# Altium integrated library 74xx-eu.IntLib: 627 symbols (part 3 of 4)
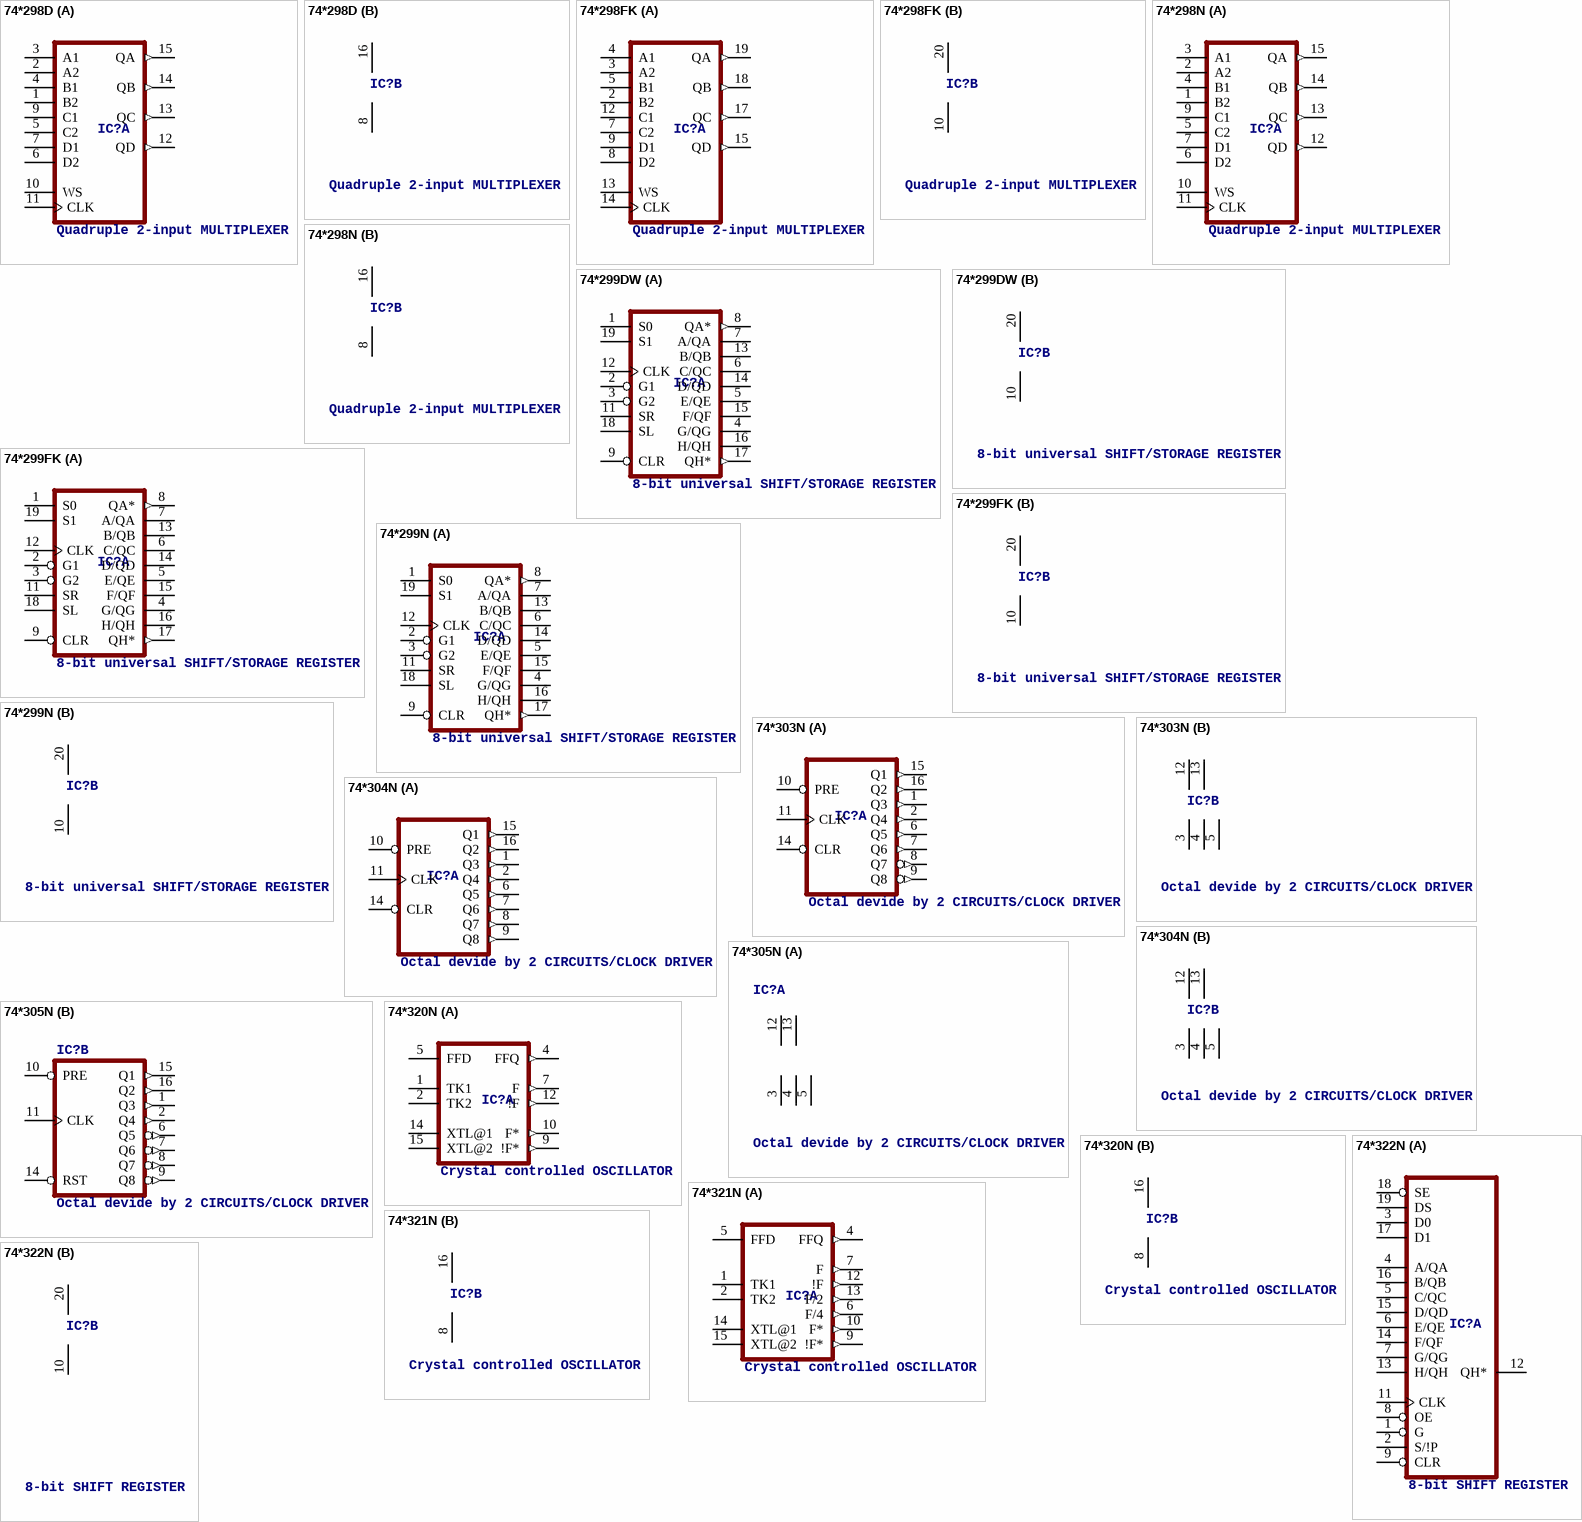
[diagram p57: symbols 74*298D to 74*322N]

## 74*299DW
designator IC?, comment 8-bit universal SHIFT/STORAGE REGISTER
footprint SO20W
part A pins: 1 S0, 2 G1, 3 G2, 4 G/QG, 5 E/QE, 6 C/QC, 7 A/QA, 8 QA* (out), 9 CLR, 11 SR, 12 CLK, 13 B/QB, 14 D/QD, 15 F/QF, 16 H/QH, 17 QH* (out), 18 SL, 19 S1
part B pins: 10 GND (power), 20 VCC (power)

## 74*299FK
designator IC?, comment 8-bit universal SHIFT/STORAGE REGISTER
footprint LCC20
part A pins: 1 S0, 2 G1, 3 G2, 4 G/QG, 5 E/QE, 6 C/QC, 7 A/QA, 8 QA* (out), 9 CLR, 11 SR, 12 CLK, 13 B/QB, 14 D/QD, 15 F/QF, 16 H/QH, 17 QH* (out), 18 SL, 19 S1
part B pins: 10 GND (power), 20 VCC (power)

## 74*299N
designator IC?, comment 8-bit universal SHIFT/STORAGE REGISTER
footprint DIL20
part A pins: 1 S0, 2 G1, 3 G2, 4 G/QG, 5 E/QE, 6 C/QC, 7 A/QA, 8 QA* (out), 9 CLR, 11 SR, 12 CLK, 13 B/QB, 14 D/QD, 15 F/QF, 16 H/QH, 17 QH* (out), 18 SL, 19 S1
part B pins: 10 GND (power), 20 VCC (power)

## 74*303N
designator IC?, comment Octal devide by 2 CIRCUITS/CLOCK DRIVER
footprint DIL16
part A pins: 1 Q3 (out), 2 Q4 (out), 6 Q5 (out), 7 Q6 (out), 8 Q7 (out), 9 Q8 (out), 10 PRE, 11 CLK, 14 CLR, 15 Q1 (out), 16 Q2 (out)
part B pins: 3 GND@1 (power), 4 GND@2 (power), 5 GND@3 (power), 12 VCC@1 (power), 13 VCC@2 (power)

## 74*304N
designator IC?, comment Octal devide by 2 CIRCUITS/CLOCK DRIVER
footprint DIL16
part A pins: 1 Q3 (out), 2 Q4 (out), 6 Q5 (out), 7 Q6 (out), 8 Q7 (out), 9 Q8 (out), 10 PRE, 11 CLK, 14 CLR, 15 Q1 (out), 16 Q2 (out)
part B pins: 3 GND@1 (power), 4 GND@2 (power), 5 GND@3 (power), 12 VCC@1 (power), 13 VCC@2 (power)

## 74*305N
designator IC?, comment Octal devide by 2 CIRCUITS/CLOCK DRIVER
footprint DIL16
part A pins: 3 GND@1 (power), 4 GND@2 (power), 5 GND@3 (power), 12 VCC@1 (power), 13 VCC@2 (power)
part B pins: 1 Q3 (out), 2 Q4 (out), 6 Q5 (out), 7 Q6 (out), 8 Q7 (out), 9 Q8 (out), 10 PRE, 11 CLK, 14 RST, 15 Q1 (out), 16 Q2 (out)

## 74*320N
designator IC?, comment Crystal controlled OSCILLATOR
footprint DIL16
part A pins: 1 TK1, 2 TK2, 4 FFQ (out), 5 FFD, 7 F (out), 9 !F* (out), 10 F* (out), 12 !F (out), 14 XTL@1, 15 XTL@2
part B pins: 8 GND (power), 16 VCC (power)

## 74*321N
designator IC?, comment Crystal controlled OSCILLATOR
footprint DIL16
part A pins: 1 TK1, 2 TK2, 4 FFQ (out), 5 FFD, 6 F/4 (out), 7 F (out), 9 !F* (out), 10 F* (out), 12 !F (out), 13 F/2 (out), 14 XTL@1, 15 XTL@2
part B pins: 8 GND (power), 16 VCC (power)

## 74*322N
designator IC?, comment 8-bit SHIFT REGISTER
footprint DIL20
part A pins: 1 G, 2 S/!P, 3 D0, 4 A/QA, 5 C/QC, 6 E/QE, 7 G/QG, 8 OE, 9 CLR, 11 CLK, 12 QH* (hiz), 13 H/QH, 14 F/QF, 15 D/QD, 16 B/QB, 17 D1, 18 SE, 19 DS
part B pins: 10 GND (power), 20 VCC (power)

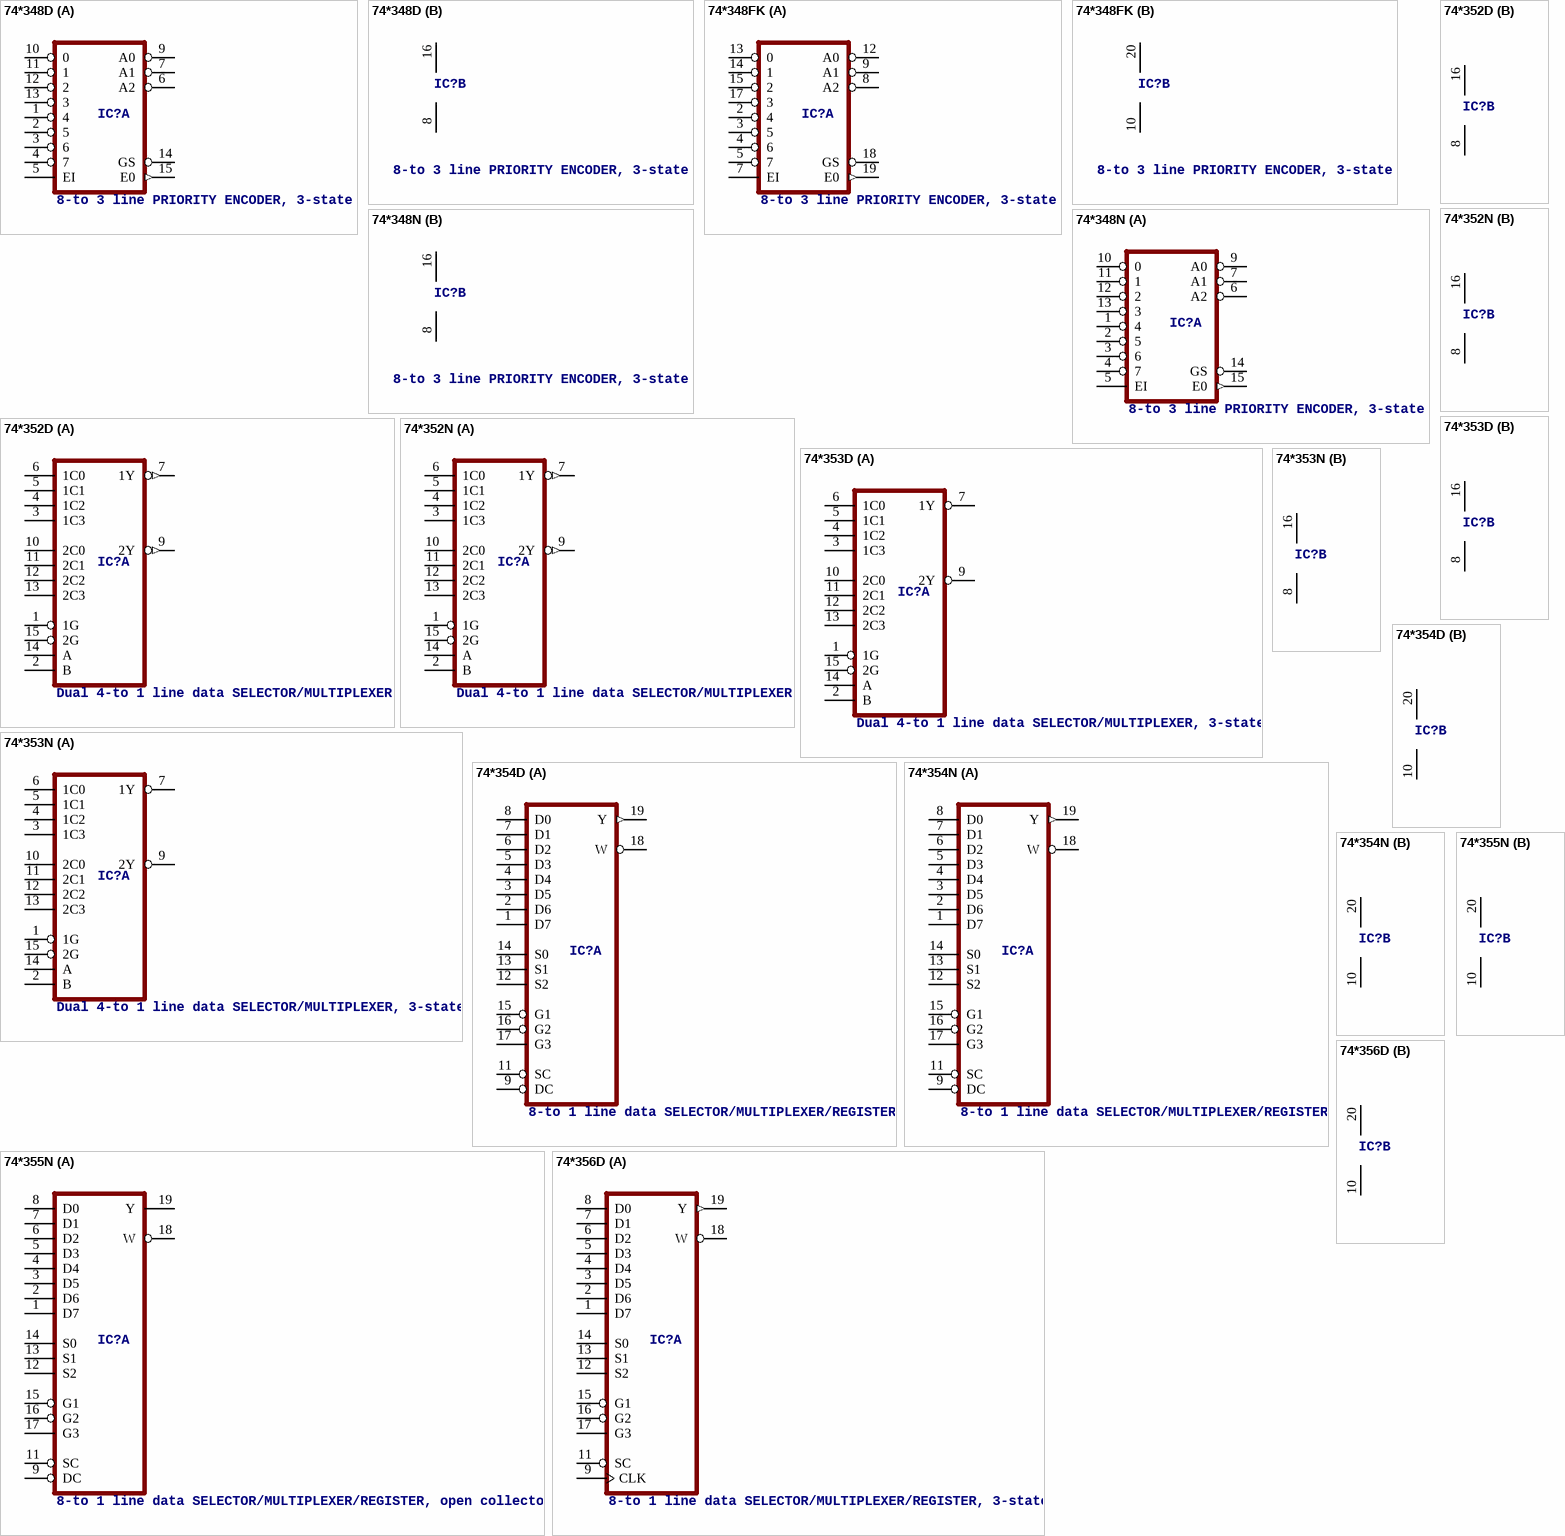
[diagram p35: symbols 74*348D to 74*356D]

## 74*348D
designator IC?, comment 8-to 3 line PRIORITY ENCODER, 3-state
footprint SO16
part A pins: 1 4, 2 5, 3 6, 4 7, 5 EI, 6 A2 (hiz), 7 A1 (hiz), 9 A0 (hiz), 10 0, 11 1, 12 2, 13 3, 14 GS (hiz), 15 E0 (out)
part B pins: 8 GND (power), 16 VCC (power)

## 74*348FK
designator IC?, comment 8-to 3 line PRIORITY ENCODER, 3-state
footprint LCC20
part A pins: 2 4, 3 5, 4 6, 5 7, 7 EI, 8 A2 (hiz), 9 A1 (hiz), 12 A0 (hiz), 13 0, 14 1, 15 2, 17 3, 18 GS (hiz), 19 E0 (out)
part B pins: 10 GND (power), 20 VCC (power)

## 74*348N
designator IC?, comment 8-to 3 line PRIORITY ENCODER, 3-state
footprint DIL16
part A pins: 1 4, 2 5, 3 6, 4 7, 5 EI, 6 A2 (hiz), 7 A1 (hiz), 9 A0 (hiz), 10 0, 11 1, 12 2, 13 3, 14 GS (hiz), 15 E0 (out)
part B pins: 8 GND (power), 16 VCC (power)

## 74*352D
designator IC?, comment Dual 4-to 1 line data SELECTOR/MULTIPLEXER
footprint SO16
part A pins: 1 1G, 2 B, 3 1C3, 4 1C2, 5 1C1, 6 1C0, 7 1Y (out), 9 2Y (out), 10 2C0, 11 2C1, 12 2C2, 13 2C3, 14 A, 15 2G
part B pins: 8 GND (power), 16 VCC (power)

## 74*352N
designator IC?, comment Dual 4-to 1 line data SELECTOR/MULTIPLEXER
footprint DIL16
part A pins: 1 1G, 2 B, 3 1C3, 4 1C2, 5 1C1, 6 1C0, 7 1Y (out), 9 2Y (out), 10 2C0, 11 2C1, 12 2C2, 13 2C3, 14 A, 15 2G
part B pins: 8 GND (power), 16 VCC (power)

## 74*353D
designator IC?, comment Dual 4-to 1 line data SELECTOR/MULTIPLEXER, 3-state
footprint SO16
part A pins: 1 1G, 2 B, 3 1C3, 4 1C2, 5 1C1, 6 1C0, 7 1Y (hiz), 9 2Y (hiz), 10 2C0, 11 2C1, 12 2C2, 13 2C3, 14 A, 15 2G
part B pins: 8 GND (power), 16 VCC (power)

## 74*353N
designator IC?, comment Dual 4-to 1 line data SELECTOR/MULTIPLEXER, 3-state
footprint DIL16
part A pins: 1 1G, 2 B, 3 1C3, 4 1C2, 5 1C1, 6 1C0, 7 1Y (hiz), 9 2Y (hiz), 10 2C0, 11 2C1, 12 2C2, 13 2C3, 14 A, 15 2G
part B pins: 8 GND (power), 16 VCC (power)

## 74*354D
designator IC?, comment 8-to 1 line data SELECTOR/MULTIPLEXER/REGISTER
footprint SO20W
part A pins: 1 D7, 2 D6, 3 D5, 4 D4, 5 D3, 6 D2, 7 D1, 8 D0, 9 DC, 11 SC, 12 S2, 13 S1, 14 S0, 15 G1, 16 G2, 17 G3, 18 W (hiz), 19 Y (out)
part B pins: 10 GND (power), 20 VCC (power)

## 74*354N
designator IC?, comment 8-to 1 line data SELECTOR/MULTIPLEXER/REGISTER
footprint DIL20
part A pins: 1 D7, 2 D6, 3 D5, 4 D4, 5 D3, 6 D2, 7 D1, 8 D0, 9 DC, 11 SC, 12 S2, 13 S1, 14 S0, 15 G1, 16 G2, 17 G3, 18 W (hiz), 19 Y (out)
part B pins: 10 GND (power), 20 VCC (power)

## 74*355N
designator IC?, comment 8-to 1 line data SELECTOR/MULTIPLEXER/REGISTER, open collector
footprint DIL20
part A pins: 1 D7, 2 D6, 3 D5, 4 D4, 5 D3, 6 D2, 7 D1, 8 D0, 9 DC, 11 SC, 12 S2, 13 S1, 14 S0, 15 G1, 16 G2, 17 G3, 18 W (oc), 19 Y (oc)
part B pins: 10 GND (power), 20 VCC (power)

## 74*356D
designator IC?, comment 8-to 1 line data SELECTOR/MULTIPLEXER/REGISTER, 3-state
footprint SO20W
part A pins: 1 D7, 2 D6, 3 D5, 4 D4, 5 D3, 6 D2, 7 D1, 8 D0, 9 CLK, 11 SC, 12 S2, 13 S1, 14 S0, 15 G1, 16 G2, 17 G3, 18 W (hiz), 19 Y (out)
part B pins: 10 GND (power), 20 VCC (power)

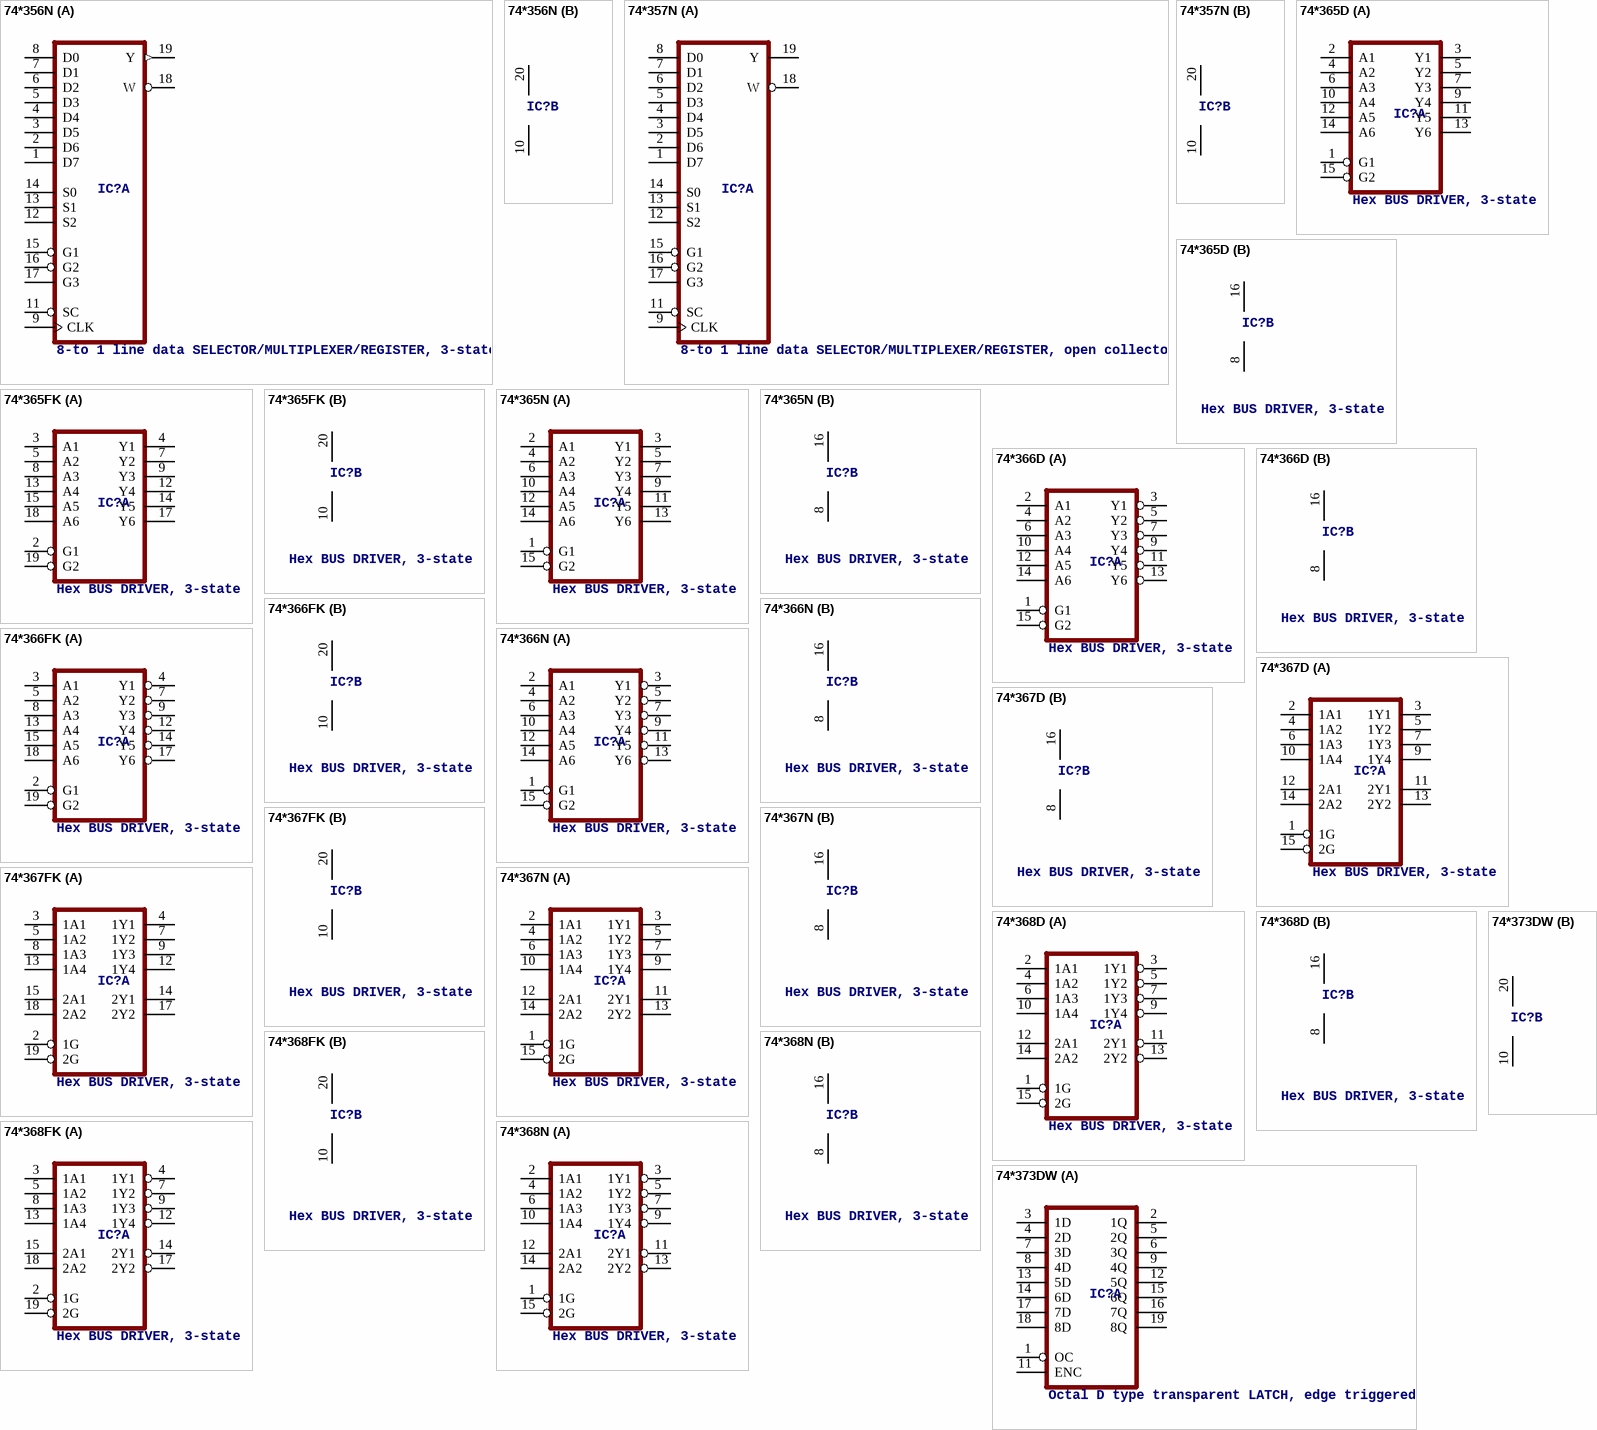
[diagram p36: symbols 74*356N to 74*373DW]

## 74*356N
designator IC?, comment 8-to 1 line data SELECTOR/MULTIPLEXER/REGISTER, 3-state
footprint DIL20
part A pins: 1 D7, 2 D6, 3 D5, 4 D4, 5 D3, 6 D2, 7 D1, 8 D0, 9 CLK, 11 SC, 12 S2, 13 S1, 14 S0, 15 G1, 16 G2, 17 G3, 18 W (hiz), 19 Y (out)
part B pins: 10 GND (power), 20 VCC (power)

## 74*357N
designator IC?, comment 8-to 1 line data SELECTOR/MULTIPLEXER/REGISTER, open collector
footprint DIL20
part A pins: 1 D7, 2 D6, 3 D5, 4 D4, 5 D3, 6 D2, 7 D1, 8 D0, 9 CLK, 11 SC, 12 S2, 13 S1, 14 S0, 15 G1, 16 G2, 17 G3, 18 W (oc), 19 Y (oc)
part B pins: 10 GND (power), 20 VCC (power)

## 74*365D
designator IC?, comment Hex BUS DRIVER, 3-state
footprint SO16
part A pins: 1 G1, 2 A1, 3 Y1 (hiz), 4 A2, 5 Y2 (hiz), 6 A3, 7 Y3 (hiz), 9 Y4 (hiz), 10 A4, 11 Y5 (hiz), 12 A5, 13 Y6 (hiz), 14 A6, 15 G2
part B pins: 8 GND (power), 16 VCC (power)

## 74*365FK
designator IC?, comment Hex BUS DRIVER, 3-state
footprint LCC20
part A pins: 2 G1, 3 A1, 4 Y1 (hiz), 5 A2, 7 Y2 (hiz), 8 A3, 9 Y3 (hiz), 12 Y4 (hiz), 13 A4, 14 Y5 (hiz), 15 A5, 17 Y6 (hiz), 18 A6, 19 G2
part B pins: 10 GND (power), 20 VCC (power)

## 74*365N
designator IC?, comment Hex BUS DRIVER, 3-state
footprint DIL16
part A pins: 1 G1, 2 A1, 3 Y1 (hiz), 4 A2, 5 Y2 (hiz), 6 A3, 7 Y3 (hiz), 9 Y4 (hiz), 10 A4, 11 Y5 (hiz), 12 A5, 13 Y6 (hiz), 14 A6, 15 G2
part B pins: 8 GND (power), 16 VCC (power)

## 74*366D
designator IC?, comment Hex BUS DRIVER, 3-state
footprint SO16
part A pins: 1 G1, 2 A1, 3 Y1 (hiz), 4 A2, 5 Y2 (hiz), 6 A3, 7 Y3 (hiz), 9 Y4 (hiz), 10 A4, 11 Y5 (hiz), 12 A5, 13 Y6 (hiz), 14 A6, 15 G2
part B pins: 8 GND (power), 16 VCC (power)

## 74*366FK
designator IC?, comment Hex BUS DRIVER, 3-state
footprint LCC20
part A pins: 2 G1, 3 A1, 4 Y1 (hiz), 5 A2, 7 Y2 (hiz), 8 A3, 9 Y3 (hiz), 12 Y4 (hiz), 13 A4, 14 Y5 (hiz), 15 A5, 17 Y6 (hiz), 18 A6, 19 G2
part B pins: 10 GND (power), 20 VCC (power)

## 74*366N
designator IC?, comment Hex BUS DRIVER, 3-state
footprint DIL16
part A pins: 1 G1, 2 A1, 3 Y1 (hiz), 4 A2, 5 Y2 (hiz), 6 A3, 7 Y3 (hiz), 9 Y4 (hiz), 10 A4, 11 Y5 (hiz), 12 A5, 13 Y6 (hiz), 14 A6, 15 G2
part B pins: 8 GND (power), 16 VCC (power)

## 74*367D
designator IC?, comment Hex BUS DRIVER, 3-state
footprint SO16
part A pins: 1 1G, 2 1A1, 3 1Y1 (hiz), 4 1A2, 5 1Y2 (hiz), 6 1A3, 7 1Y3 (hiz), 9 1Y4 (hiz), 10 1A4, 11 2Y1 (hiz), 12 2A1, 13 2Y2 (hiz), 14 2A2, 15 2G
part B pins: 8 GND (power), 16 VCC (power)

## 74*367FK
designator IC?, comment Hex BUS DRIVER, 3-state
footprint LCC20
part A pins: 2 1G, 3 1A1, 4 1Y1 (hiz), 5 1A2, 7 1Y2 (hiz), 8 1A3, 9 1Y3 (hiz), 12 1Y4 (hiz), 13 1A4, 14 2Y1 (hiz), 15 2A1, 17 2Y2 (hiz), 18 2A2, 19 2G
part B pins: 10 GND (power), 20 VCC (power)

## 74*367N
designator IC?, comment Hex BUS DRIVER, 3-state
footprint DIL16
part A pins: 1 1G, 2 1A1, 3 1Y1 (hiz), 4 1A2, 5 1Y2 (hiz), 6 1A3, 7 1Y3 (hiz), 9 1Y4 (hiz), 10 1A4, 11 2Y1 (hiz), 12 2A1, 13 2Y2 (hiz), 14 2A2, 15 2G
part B pins: 8 GND (power), 16 VCC (power)

## 74*368D
designator IC?, comment Hex BUS DRIVER, 3-state
footprint SO16
part A pins: 1 1G, 2 1A1, 3 1Y1 (hiz), 4 1A2, 5 1Y2 (hiz), 6 1A3, 7 1Y3 (hiz), 9 1Y4 (hiz), 10 1A4, 11 2Y1 (hiz), 12 2A1, 13 2Y2 (hiz), 14 2A2, 15 2G
part B pins: 8 GND (power), 16 VCC (power)

## 74*368FK
designator IC?, comment Hex BUS DRIVER, 3-state
footprint LCC20
part A pins: 2 1G, 3 1A1, 4 1Y1 (hiz), 5 1A2, 7 1Y2 (hiz), 8 1A3, 9 1Y3 (hiz), 12 1Y4 (hiz), 13 1A4, 14 2Y1 (hiz), 15 2A1, 17 2Y2 (hiz), 18 2A2, 19 2G
part B pins: 10 GND (power), 20 VCC (power)

## 74*368N
designator IC?, comment Hex BUS DRIVER, 3-state
footprint DIL16
part A pins: 1 1G, 2 1A1, 3 1Y1 (hiz), 4 1A2, 5 1Y2 (hiz), 6 1A3, 7 1Y3 (hiz), 9 1Y4 (hiz), 10 1A4, 11 2Y1 (hiz), 12 2A1, 13 2Y2 (hiz), 14 2A2, 15 2G
part B pins: 8 GND (power), 16 VCC (power)

## 74*373DW
designator IC?, comment Octal D type transparent LATCH, edge triggered
footprint SO20W
part A pins: 1 OC, 2 1Q (hiz), 3 1D, 4 2D, 5 2Q (hiz), 6 3Q (hiz), 7 3D, 8 4D, 9 4Q (hiz), 11 ENC, 12 5Q (hiz), 13 5D, 14 6D, 15 6Q (hiz), 16 7Q (hiz), 17 7D, 18 8D, 19 8Q (hiz)
part B pins: 10 GND (power), 20 VCC (power)

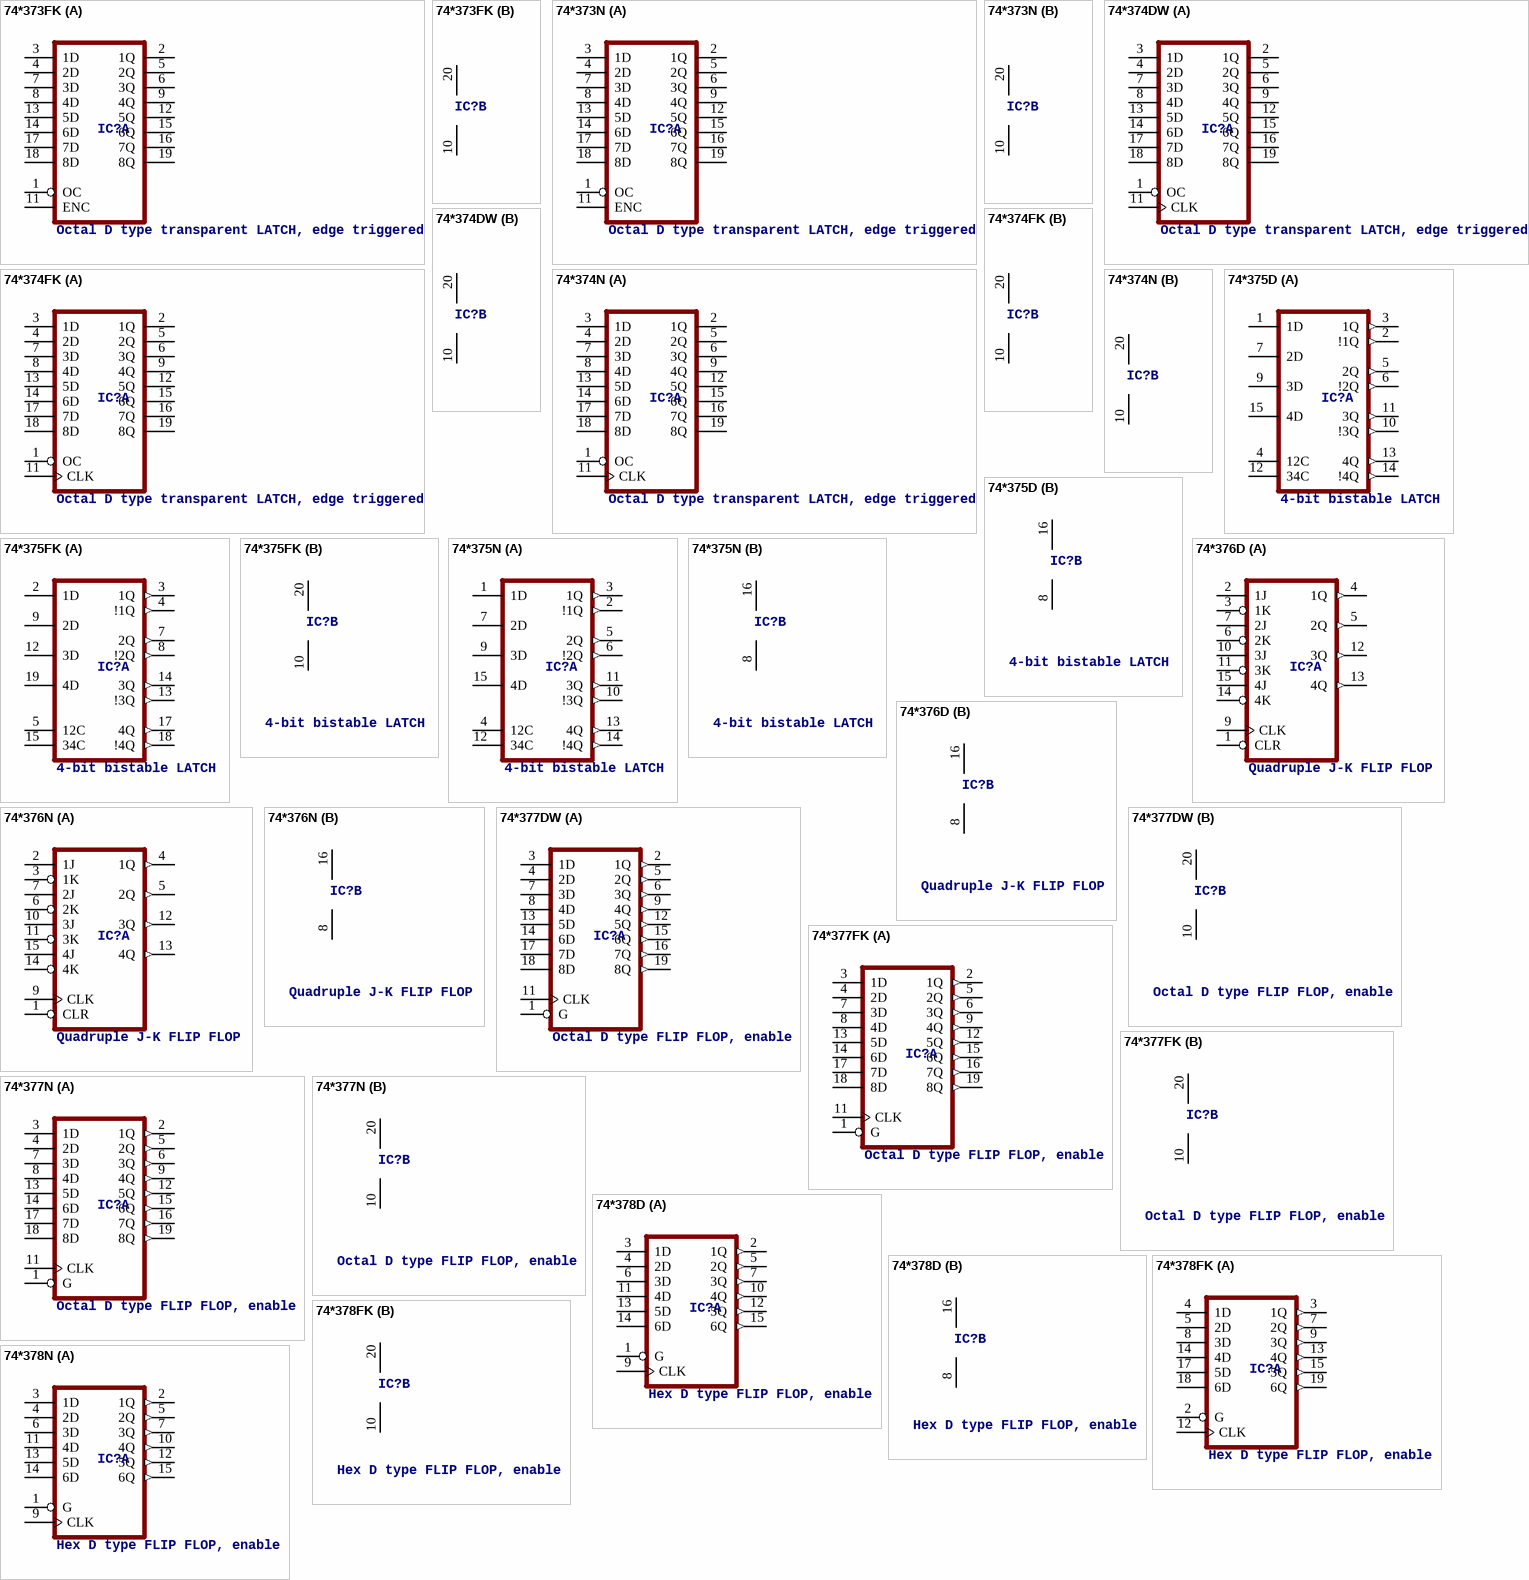
[diagram p37: symbols 74*373FK to 74*378N]

## 74*373FK
designator IC?, comment Octal D type transparent LATCH, edge triggered
footprint LCC20
part A pins: 1 OC, 2 1Q (hiz), 3 1D, 4 2D, 5 2Q (hiz), 6 3Q (hiz), 7 3D, 8 4D, 9 4Q (hiz), 11 ENC, 12 5Q (hiz), 13 5D, 14 6D, 15 6Q (hiz), 16 7Q (hiz), 17 7D, 18 8D, 19 8Q (hiz)
part B pins: 10 GND (power), 20 VCC (power)

## 74*373N
designator IC?, comment Octal D type transparent LATCH, edge triggered
footprint DIL20
part A pins: 1 OC, 2 1Q (hiz), 3 1D, 4 2D, 5 2Q (hiz), 6 3Q (hiz), 7 3D, 8 4D, 9 4Q (hiz), 11 ENC, 12 5Q (hiz), 13 5D, 14 6D, 15 6Q (hiz), 16 7Q (hiz), 17 7D, 18 8D, 19 8Q (hiz)
part B pins: 10 GND (power), 20 VCC (power)

## 74*374DW
designator IC?, comment Octal D type transparent LATCH, edge triggered
footprint SO20W
part A pins: 1 OC, 2 1Q (hiz), 3 1D, 4 2D, 5 2Q (hiz), 6 3Q (hiz), 7 3D, 8 4D, 9 4Q (hiz), 11 CLK, 12 5Q (hiz), 13 5D, 14 6D, 15 6Q (hiz), 16 7Q (hiz), 17 7D, 18 8D, 19 8Q (hiz)
part B pins: 10 GND (power), 20 VCC (power)

## 74*374FK
designator IC?, comment Octal D type transparent LATCH, edge triggered
footprint LCC20
part A pins: 1 OC, 2 1Q (hiz), 3 1D, 4 2D, 5 2Q (hiz), 6 3Q (hiz), 7 3D, 8 4D, 9 4Q (hiz), 11 CLK, 12 5Q (hiz), 13 5D, 14 6D, 15 6Q (hiz), 16 7Q (hiz), 17 7D, 18 8D, 19 8Q (hiz)
part B pins: 10 GND (power), 20 VCC (power)

## 74*374N
designator IC?, comment Octal D type transparent LATCH, edge triggered
footprint DIL20
part A pins: 1 OC, 2 1Q (hiz), 3 1D, 4 2D, 5 2Q (hiz), 6 3Q (hiz), 7 3D, 8 4D, 9 4Q (hiz), 11 CLK, 12 5Q (hiz), 13 5D, 14 6D, 15 6Q (hiz), 16 7Q (hiz), 17 7D, 18 8D, 19 8Q (hiz)
part B pins: 10 GND (power), 20 VCC (power)

## 74*375D
designator IC?, comment 4-bit bistable LATCH
footprint SO16
part A pins: 1 1D, 2 !1Q (out), 3 1Q (out), 4 12C, 5 2Q (out), 6 !2Q (out), 7 2D, 9 3D, 10 !3Q (out), 11 3Q (out), 12 34C, 13 4Q (out), 14 !4Q (out), 15 4D
part B pins: 8 GND (power), 16 VCC (power)

## 74*375FK
designator IC?, comment 4-bit bistable LATCH
footprint LCC20
part A pins: 2 1D, 3 1Q (out), 4 !1Q (out), 5 12C, 7 2Q (out), 8 !2Q (out), 9 2D, 12 3D, 13 !3Q (out), 14 3Q (out), 15 34C, 17 4Q (out), 18 !4Q (out), 19 4D
part B pins: 10 GND (power), 20 VCC (power)

## 74*375N
designator IC?, comment 4-bit bistable LATCH
footprint DIL16
part A pins: 1 1D, 2 !1Q (out), 3 1Q (out), 4 12C, 5 2Q (out), 6 !2Q (out), 7 2D, 9 3D, 10 !3Q (out), 11 3Q (out), 12 34C, 13 4Q (out), 14 !4Q (out), 15 4D
part B pins: 8 GND (power), 16 VCC (power)

## 74*376D
designator IC?, comment Quadruple J-K FLIP FLOP
footprint SO16
part A pins: 1 CLR, 2 1J, 3 1K, 4 1Q (out), 5 2Q (out), 6 2K, 7 2J, 9 CLK, 10 3J, 11 3K, 12 3Q (out), 13 4Q (out), 14 4K, 15 4J
part B pins: 8 GND (power), 16 VCC (power)

## 74*376N
designator IC?, comment Quadruple J-K FLIP FLOP
footprint DIL16
part A pins: 1 CLR, 2 1J, 3 1K, 4 1Q (out), 5 2Q (out), 6 2K, 7 2J, 9 CLK, 10 3J, 11 3K, 12 3Q (out), 13 4Q (out), 14 4K, 15 4J
part B pins: 8 GND (power), 16 VCC (power)

## 74*377DW
designator IC?, comment Octal D type FLIP FLOP, enable
footprint SO20W
part A pins: 1 G, 2 1Q (out), 3 1D, 4 2D, 5 2Q (out), 6 3Q (out), 7 3D, 8 4D, 9 4Q (out), 11 CLK, 12 5Q (out), 13 5D, 14 6D, 15 6Q (out), 16 7Q (out), 17 7D, 18 8D, 19 8Q (out)
part B pins: 10 GND (power), 20 VCC (power)

## 74*377FK
designator IC?, comment Octal D type FLIP FLOP, enable
footprint LCC20
part A pins: 1 G, 2 1Q (out), 3 1D, 4 2D, 5 2Q (out), 6 3Q (out), 7 3D, 8 4D, 9 4Q (out), 11 CLK, 12 5Q (out), 13 5D, 14 6D, 15 6Q (out), 16 7Q (out), 17 7D, 18 8D, 19 8Q (out)
part B pins: 10 GND (power), 20 VCC (power)

## 74*377N
designator IC?, comment Octal D type FLIP FLOP, enable
footprint DIL20
part A pins: 1 G, 2 1Q (out), 3 1D, 4 2D, 5 2Q (out), 6 3Q (out), 7 3D, 8 4D, 9 4Q (out), 11 CLK, 12 5Q (out), 13 5D, 14 6D, 15 6Q (out), 16 7Q (out), 17 7D, 18 8D, 19 8Q (out)
part B pins: 10 GND (power), 20 VCC (power)

## 74*378D
designator IC?, comment Hex D type FLIP FLOP, enable
footprint SO16
part A pins: 1 G, 2 1Q (out), 3 1D, 4 2D, 5 2Q (out), 6 3D, 7 3Q (out), 9 CLK, 10 4Q (out), 11 4D, 12 5Q (out), 13 5D, 14 6D, 15 6Q (out)
part B pins: 8 GND (power), 16 VCC (power)

## 74*378FK
designator IC?, comment Hex D type FLIP FLOP, enable
footprint LCC20
part A pins: 2 G, 3 1Q (out), 4 1D, 5 2D, 7 2Q (out), 8 3D, 9 3Q (out), 12 CLK, 13 4Q (out), 14 4D, 15 5Q (out), 17 5D, 18 6D, 19 6Q (out)
part B pins: 10 GND (power), 20 VCC (power)

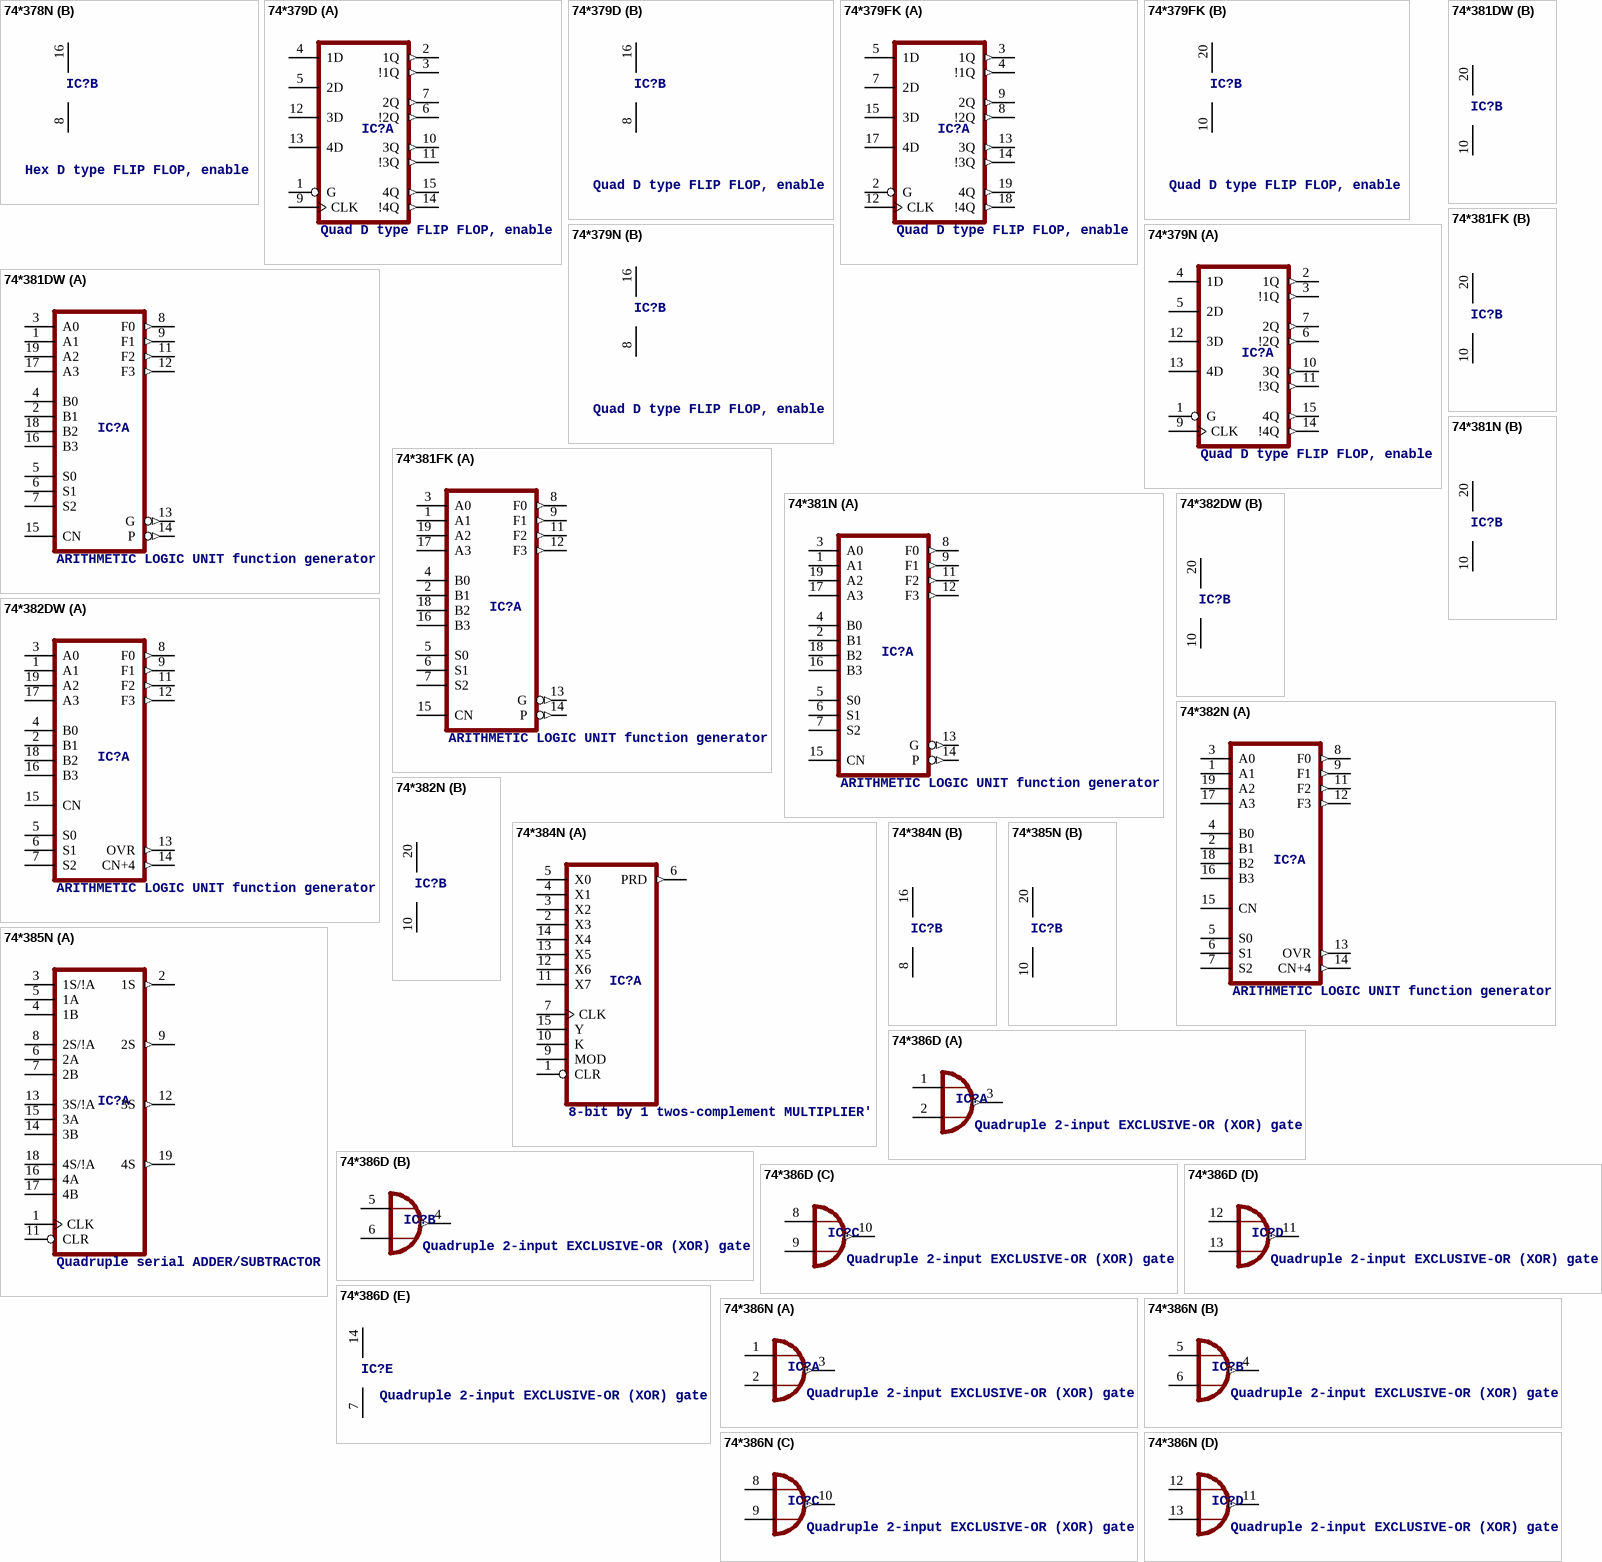
[diagram p38: symbols 74*378N to 74*386N]

## 74*378N
designator IC?, comment Hex D type FLIP FLOP, enable
footprint DIL16
part A pins: 1 G, 2 1Q (out), 3 1D, 4 2D, 5 2Q (out), 6 3D, 7 3Q (out), 9 CLK, 10 4Q (out), 11 4D, 12 5Q (out), 13 5D, 14 6D, 15 6Q (out)
part B pins: 8 GND (power), 16 VCC (power)

## 74*379D
designator IC?, comment Quad D type FLIP FLOP, enable
footprint SO16
part A pins: 1 G, 2 1Q (out), 3 !1Q (out), 4 1D, 5 2D, 6 !2Q (out), 7 2Q (out), 9 CLK, 10 3Q (out), 11 !3Q (out), 12 3D, 13 4D, 14 !4Q (out), 15 4Q (out)
part B pins: 8 GND (power), 16 VCC (power)

## 74*379FK
designator IC?, comment Quad D type FLIP FLOP, enable
footprint LCC20
part A pins: 2 G, 3 1Q (out), 4 !1Q (out), 5 1D, 7 2D, 8 !2Q (out), 9 2Q (out), 12 CLK, 13 3Q (out), 14 !3Q (out), 15 3D, 17 4D, 18 !4Q (out), 19 4Q (out)
part B pins: 10 GND (power), 20 VCC (power)

## 74*379N
designator IC?, comment Quad D type FLIP FLOP, enable
footprint DIL16
part A pins: 1 G, 2 1Q (out), 3 !1Q (out), 4 1D, 5 2D, 6 !2Q (out), 7 2Q (out), 9 CLK, 10 3Q (out), 11 !3Q (out), 12 3D, 13 4D, 14 !4Q (out), 15 4Q (out)
part B pins: 8 GND (power), 16 VCC (power)

## 74*381DW
designator IC?, comment ARITHMETIC LOGIC UNIT function generator
footprint SO20W
part A pins: 1 A1, 2 B1, 3 A0, 4 B0, 5 S0, 6 S1, 7 S2, 8 F0 (out), 9 F1 (out), 11 F2 (out), 12 F3 (out), 13 G (out), 14 P (out), 15 CN, 16 B3, 17 A3, 18 B2, 19 A2
part B pins: 10 GND (power), 20 VCC (power)

## 74*381FK
designator IC?, comment ARITHMETIC LOGIC UNIT function generator
footprint LCC20
part A pins: 1 A1, 2 B1, 3 A0, 4 B0, 5 S0, 6 S1, 7 S2, 8 F0 (out), 9 F1 (out), 11 F2 (out), 12 F3 (out), 13 G (out), 14 P (out), 15 CN, 16 B3, 17 A3, 18 B2, 19 A2
part B pins: 10 GND (power), 20 VCC (power)

## 74*381N
designator IC?, comment ARITHMETIC LOGIC UNIT function generator
footprint DIL20
part A pins: 1 A1, 2 B1, 3 A0, 4 B0, 5 S0, 6 S1, 7 S2, 8 F0 (out), 9 F1 (out), 11 F2 (out), 12 F3 (out), 13 G (out), 14 P (out), 15 CN, 16 B3, 17 A3, 18 B2, 19 A2
part B pins: 10 GND (power), 20 VCC (power)

## 74*382DW
designator IC?, comment ARITHMETIC LOGIC UNIT function generator
footprint SO20W
part A pins: 1 A1, 2 B1, 3 A0, 4 B0, 5 S0, 6 S1, 7 S2, 8 F0 (out), 9 F1 (out), 11 F2 (out), 12 F3 (out), 13 OVR (out), 14 CN+4 (out), 15 CN, 16 B3, 17 A3, 18 B2, 19 A2
part B pins: 10 GND (power), 20 VCC (power)

## 74*382N
designator IC?, comment ARITHMETIC LOGIC UNIT function generator
footprint DIL20
part A pins: 1 A1, 2 B1, 3 A0, 4 B0, 5 S0, 6 S1, 7 S2, 8 F0 (out), 9 F1 (out), 11 F2 (out), 12 F3 (out), 13 OVR (out), 14 CN+4 (out), 15 CN, 16 B3, 17 A3, 18 B2, 19 A2
part B pins: 10 GND (power), 20 VCC (power)

## 74*384N
designator IC?, comment 8-bit by 1 twos-complement MULTIPLIER'
footprint DIL16
part A pins: 1 CLR, 2 X3, 3 X2, 4 X1, 5 X0, 6 PRD (out), 7 CLK, 9 MOD, 10 K, 11 X7, 12 X6, 13 X5, 14 X4, 15 Y
part B pins: 8 GND (power), 16 VCC (power)

## 74*385N
designator IC?, comment Quadruple serial ADDER/SUBTRACTOR
footprint DIL20
part A pins: 1 CLK, 2 1S (out), 3 1S/!A, 4 1B, 5 1A, 6 2A, 7 2B, 8 2S/!A, 9 2S (out), 11 CLR, 12 3S (out), 13 3S/!A, 14 3B, 15 3A, 16 4A, 17 4B, 18 4S/!A, 19 4S (out)
part B pins: 10 GND (power), 20 VCC (power)

## 74*386D
designator IC?, comment Quadruple 2-input EXCLUSIVE-OR (XOR) gate
footprint SO14
part A pins: 1 I0, 2 I1, 3 O (out)
part B pins: 4 O (out), 5 I0, 6 I1
part C pins: 8 I0, 9 I1, 10 O (out)
part D pins: 11 O (out), 12 I0, 13 I1
part E pins: 7 GND (power), 14 VCC (power)

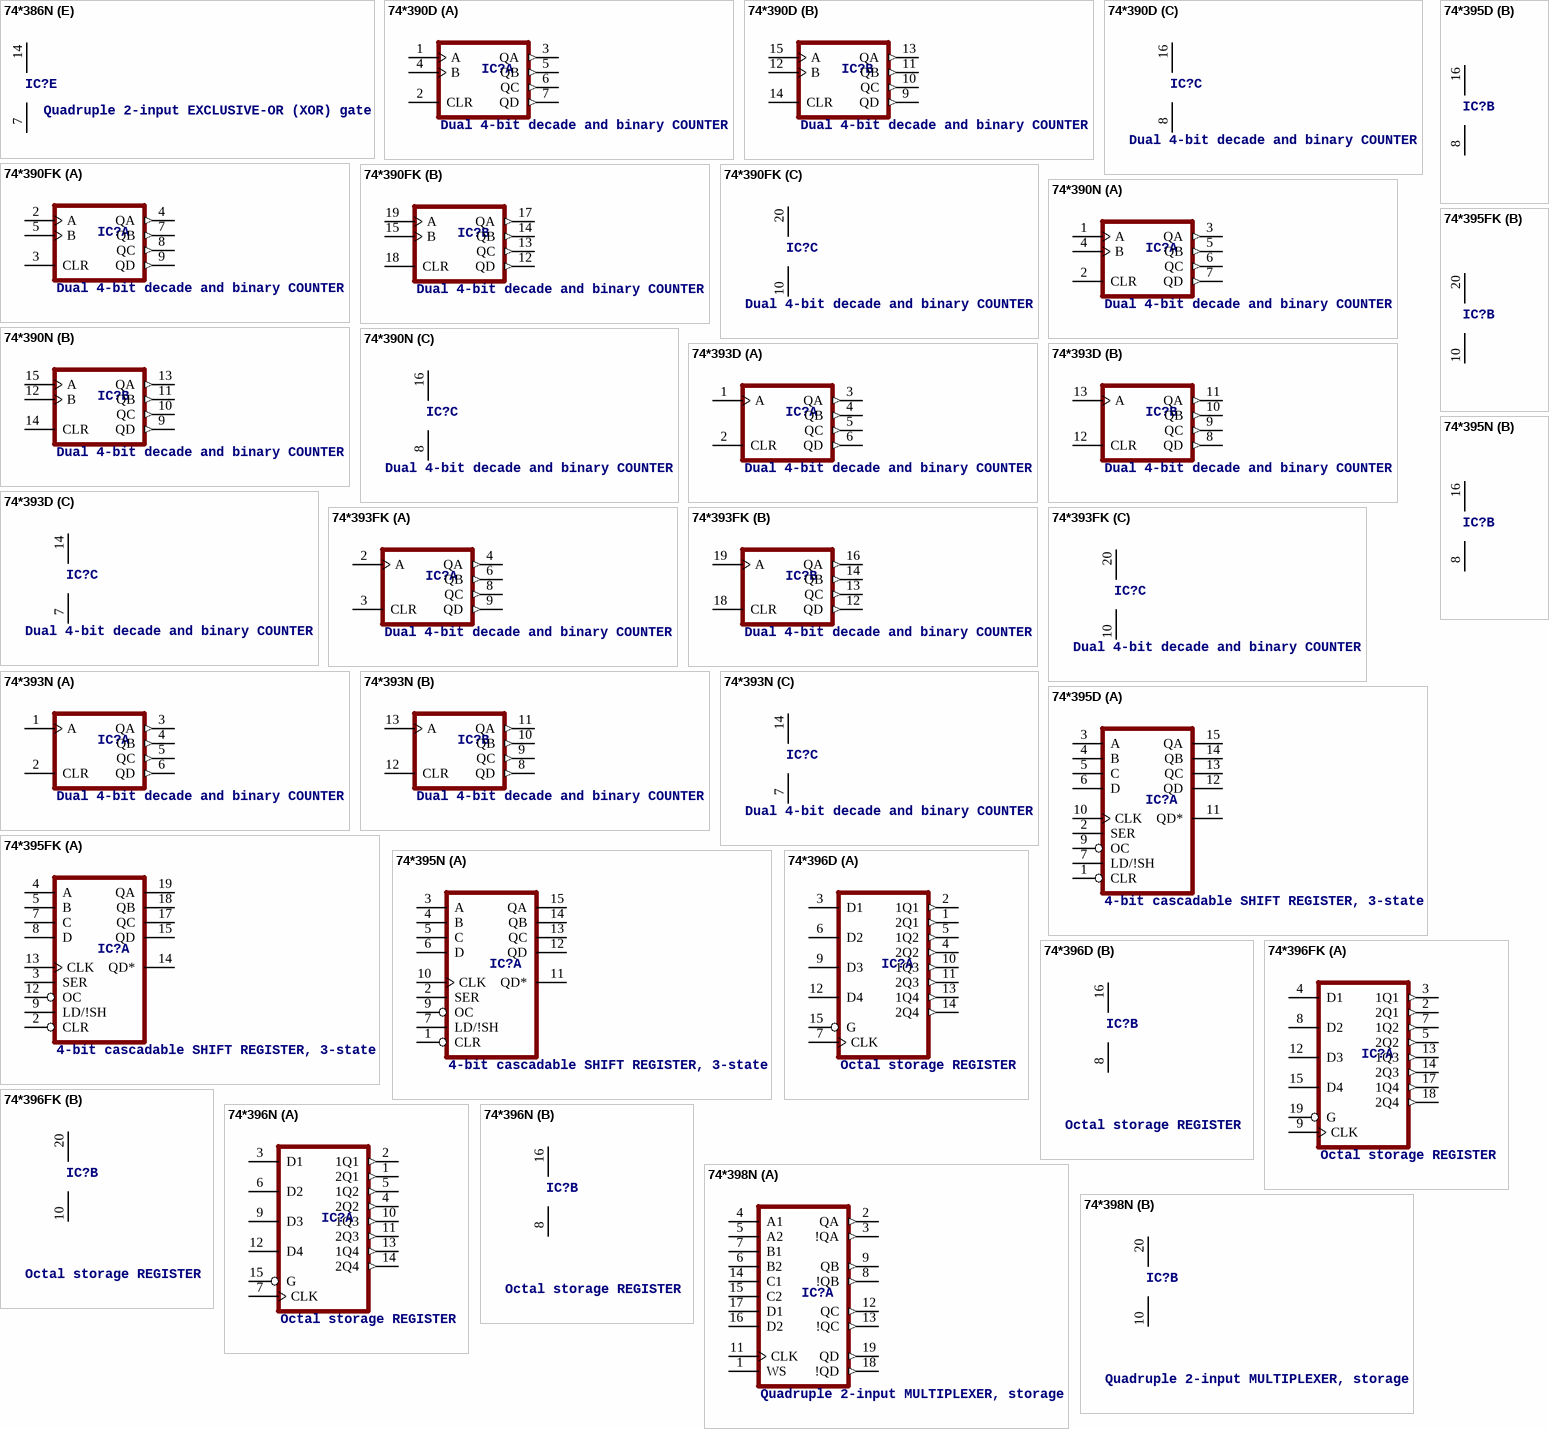
[diagram p39: symbols 74*386N to 74*398N]

## 74*386N
designator IC?, comment Quadruple 2-input EXCLUSIVE-OR (XOR) gate
footprint DIL14
part A pins: 1 I0, 2 I1, 3 O (out)
part B pins: 4 O (out), 5 I0, 6 I1
part C pins: 8 I0, 9 I1, 10 O (out)
part D pins: 11 O (out), 12 I0, 13 I1
part E pins: 7 GND (power), 14 VCC (power)

## 74*390D
designator IC?, comment Dual 4-bit decade and binary COUNTER
footprint SO16
part A pins: 1 A, 2 CLR, 3 QA (out), 4 B, 5 QB (out), 6 QC (out), 7 QD (out)
part B pins: 9 QD (out), 10 QC (out), 11 QB (out), 12 B, 13 QA (out), 14 CLR, 15 A
part C pins: 8 GND (power), 16 VCC (power)

## 74*390FK
designator IC?, comment Dual 4-bit decade and binary COUNTER
footprint LCC20
part A pins: 2 A, 3 CLR, 4 QA (out), 5 B, 7 QB (out), 8 QC (out), 9 QD (out)
part B pins: 12 QD (out), 13 QC (out), 14 QB (out), 15 B, 17 QA (out), 18 CLR, 19 A
part C pins: 10 GND (power), 20 VCC (power)

## 74*390N
designator IC?, comment Dual 4-bit decade and binary COUNTER
footprint DIL16
part A pins: 1 A, 2 CLR, 3 QA (out), 4 B, 5 QB (out), 6 QC (out), 7 QD (out)
part B pins: 9 QD (out), 10 QC (out), 11 QB (out), 12 B, 13 QA (out), 14 CLR, 15 A
part C pins: 8 GND (power), 16 VCC (power)

## 74*393D
designator IC?, comment Dual 4-bit decade and binary COUNTER
footprint SO14
part A pins: 1 A, 2 CLR, 3 QA (out), 4 QB (out), 5 QC (out), 6 QD (out)
part B pins: 8 QD (out), 9 QC (out), 10 QB (out), 11 QA (out), 12 CLR, 13 A
part C pins: 7 GND (power), 14 VCC (power)

## 74*393FK
designator IC?, comment Dual 4-bit decade and binary COUNTER
footprint LCC20
part A pins: 2 A, 3 CLR, 4 QA (out), 6 QB (out), 8 QC (out), 9 QD (out)
part B pins: 12 QD (out), 13 QC (out), 14 QB (out), 16 QA (out), 18 CLR, 19 A
part C pins: 10 GND (power), 20 VCC (power)

## 74*393N
designator IC?, comment Dual 4-bit decade and binary COUNTER
footprint DIL14
part A pins: 1 A, 2 CLR, 3 QA (out), 4 QB (out), 5 QC (out), 6 QD (out)
part B pins: 8 QD (out), 9 QC (out), 10 QB (out), 11 QA (out), 12 CLR, 13 A
part C pins: 7 GND (power), 14 VCC (power)

## 74*395D
designator IC?, comment 4-bit cascadable SHIFT REGISTER, 3-state
footprint SO16
part A pins: 1 CLR, 2 SER, 3 A, 4 B, 5 C, 6 D, 7 LD/!SH, 9 OC, 10 CLK, 11 QD* (hiz), 12 QD (hiz), 13 QC (hiz), 14 QB (hiz), 15 QA (hiz)
part B pins: 8 GND (power), 16 VCC (power)

## 74*395FK
designator IC?, comment 4-bit cascadable SHIFT REGISTER, 3-state
footprint LCC20
part A pins: 2 CLR, 3 SER, 4 A, 5 B, 7 C, 8 D, 9 LD/!SH, 12 OC, 13 CLK, 14 QD* (hiz), 15 QD (hiz), 17 QC (hiz), 18 QB (hiz), 19 QA (hiz)
part B pins: 10 GND (power), 20 VCC (power)

## 74*395N
designator IC?, comment 4-bit cascadable SHIFT REGISTER, 3-state
footprint DIL16
part A pins: 1 CLR, 2 SER, 3 A, 4 B, 5 C, 6 D, 7 LD/!SH, 9 OC, 10 CLK, 11 QD* (hiz), 12 QD (hiz), 13 QC (hiz), 14 QB (hiz), 15 QA (hiz)
part B pins: 8 GND (power), 16 VCC (power)

## 74*396D
designator IC?, comment Octal storage REGISTER
footprint SO16
part A pins: 1 2Q1 (out), 2 1Q1 (out), 3 D1, 4 2Q2 (out), 5 1Q2 (out), 6 D2, 7 CLK, 9 D3, 10 1Q3 (out), 11 2Q3 (out), 12 D4, 13 1Q4 (out), 14 2Q4 (out), 15 G
part B pins: 8 GND (power), 16 VCC (power)

## 74*396FK
designator IC?, comment Octal storage REGISTER
footprint LCC20
part A pins: 2 2Q1 (out), 3 1Q1 (out), 4 D1, 5 2Q2 (out), 7 1Q2 (out), 8 D2, 9 CLK, 12 D3, 13 1Q3 (out), 14 2Q3 (out), 15 D4, 17 1Q4 (out), 18 2Q4 (out), 19 G
part B pins: 10 GND (power), 20 VCC (power)

## 74*396N
designator IC?, comment Octal storage REGISTER
footprint DIL16
part A pins: 1 2Q1 (out), 2 1Q1 (out), 3 D1, 4 2Q2 (out), 5 1Q2 (out), 6 D2, 7 CLK, 9 D3, 10 1Q3 (out), 11 2Q3 (out), 12 D4, 13 1Q4 (out), 14 2Q4 (out), 15 G
part B pins: 8 GND (power), 16 VCC (power)

## 74*398N
designator IC?, comment Quadruple 2-input MULTIPLEXER, storage
footprint DIL20
part A pins: 1 WS, 2 QA (out), 3 !QA (out), 4 A1, 5 A2, 6 B2, 7 B1, 8 !QB (out), 9 QB (out), 11 CLK, 12 QC (out), 13 !QC (out), 14 C1, 15 C2, 16 D2, 17 D1, 18 !QD (out), 19 QD (out)
part B pins: 10 GND (power), 20 VCC (power)

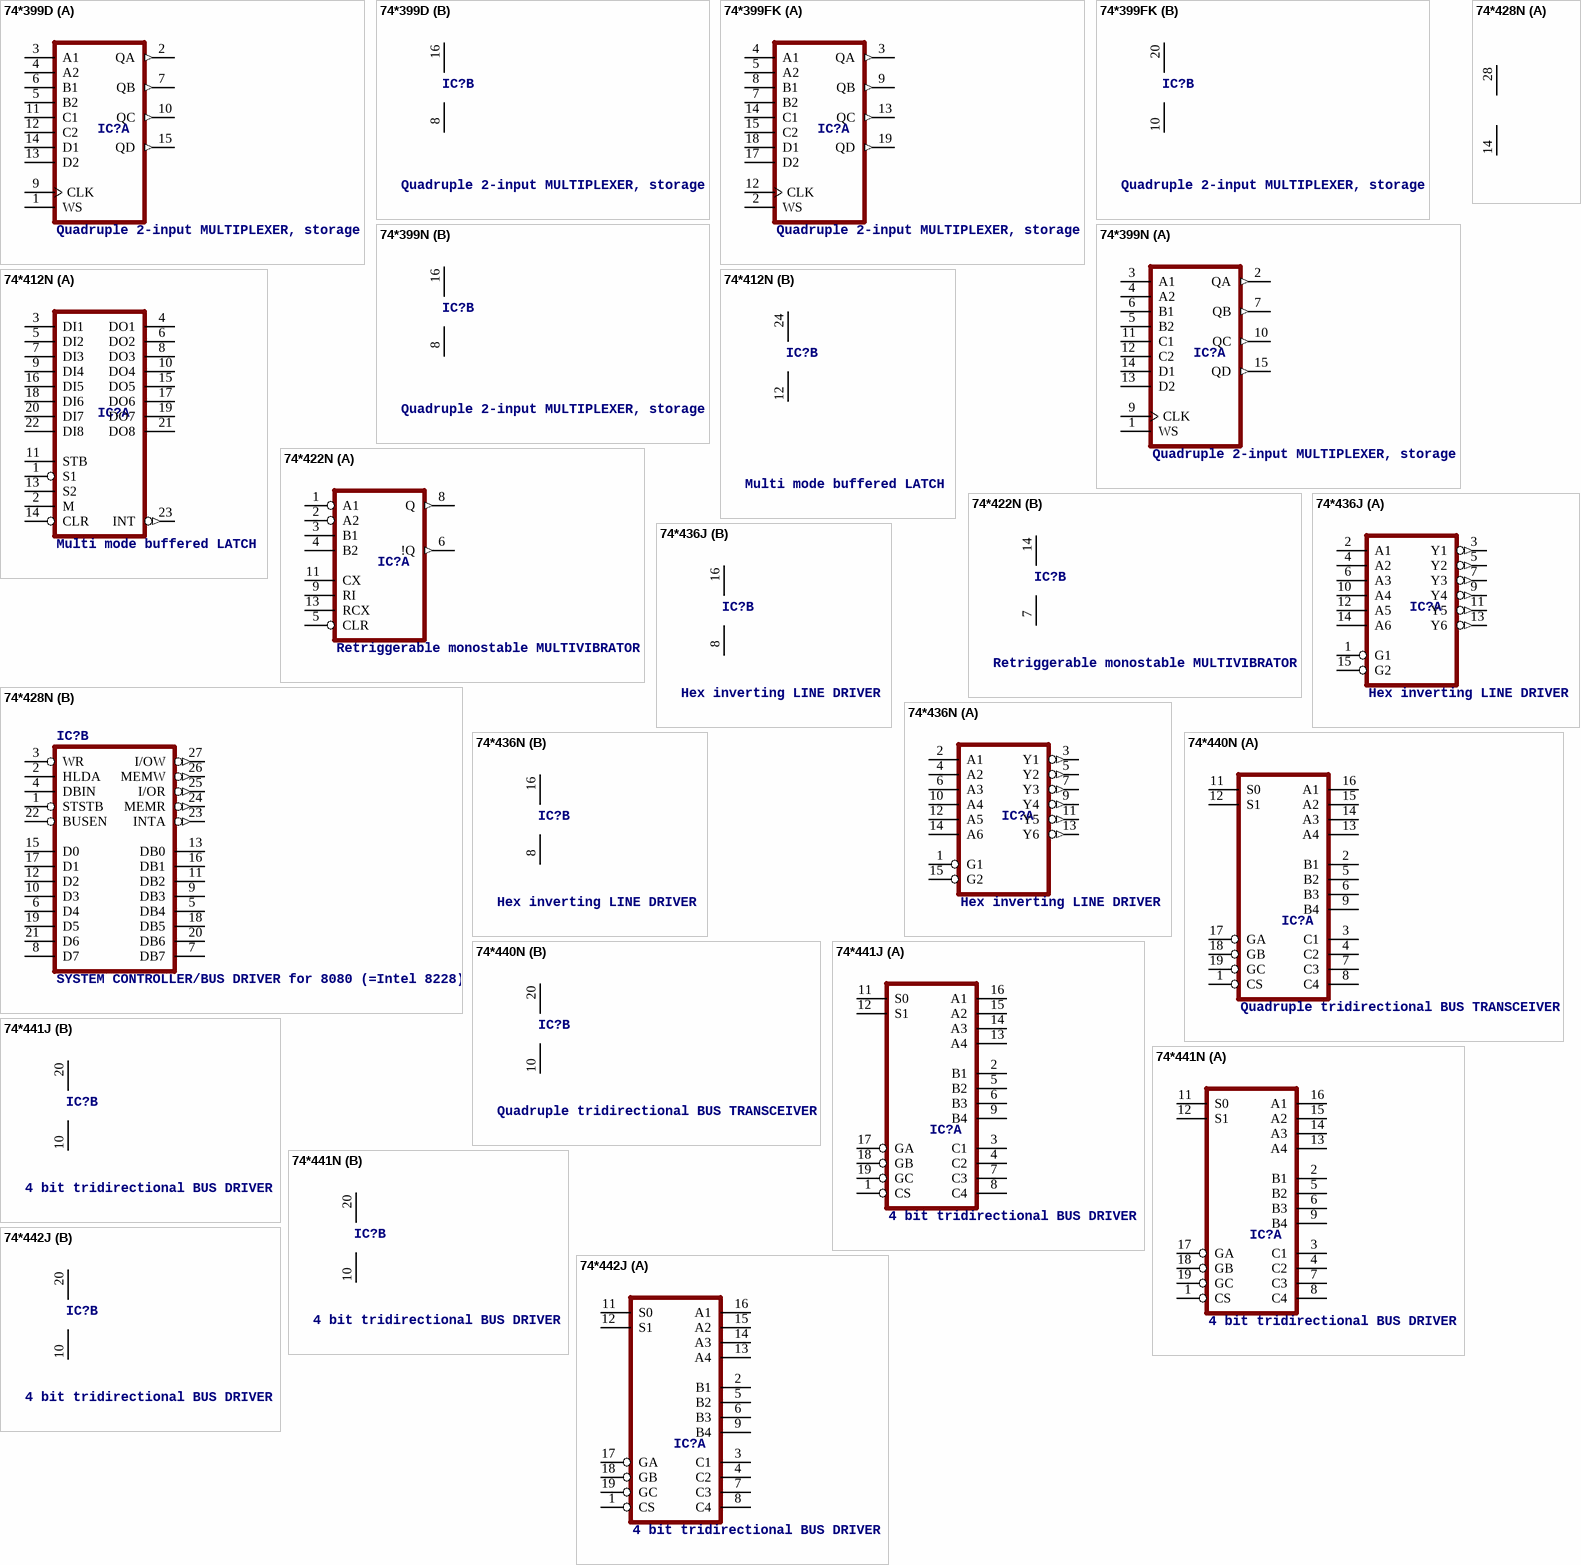
[diagram p40: symbols 74*399D to 74*442J]

## 74*399D
designator IC?, comment Quadruple 2-input MULTIPLEXER, storage
footprint SO16
part A pins: 1 WS, 2 QA (out), 3 A1, 4 A2, 5 B2, 6 B1, 7 QB (out), 9 CLK, 10 QC (out), 11 C1, 12 C2, 13 D2, 14 D1, 15 QD (out)
part B pins: 8 GND (power), 16 VCC (power)

## 74*399FK
designator IC?, comment Quadruple 2-input MULTIPLEXER, storage
footprint LCC20
part A pins: 2 WS, 3 QA (out), 4 A1, 5 A2, 7 B2, 8 B1, 9 QB (out), 12 CLK, 13 QC (out), 14 C1, 15 C2, 17 D2, 18 D1, 19 QD (out)
part B pins: 10 GND (power), 20 VCC (power)

## 74*399N
designator IC?, comment Quadruple 2-input MULTIPLEXER, storage
footprint DIL16
part A pins: 1 WS, 2 QA (out), 3 A1, 4 A2, 5 B2, 6 B1, 7 QB (out), 9 CLK, 10 QC (out), 11 C1, 12 C2, 13 D2, 14 D1, 15 QD (out)
part B pins: 8 GND (power), 16 VCC (power)

## 74*412N
designator IC?, comment Multi mode buffered LATCH
footprint DIL24-6
part A pins: 1 S1, 2 M, 3 DI1, 4 DO1 (hiz), 5 DI2, 6 DO2 (hiz), 7 DI3, 8 DO3 (hiz), 9 DI4, 10 DO4 (hiz), 11 STB, 13 S2, 14 CLR, 15 DO5 (hiz), 16 DI5, 17 DO6 (hiz), 18 DI6, 19 DO7 (hiz), 20 DI7, 21 DO8 (hiz), 22 DI8, 23 INT (out)
part B pins: 12 GND (power), 24 VCC (power)

## 74*422N
designator IC?, comment Retriggerable monostable MULTIVIBRATOR
footprint DIL14
part A pins: 1 A1, 2 A2, 3 B1, 4 B2, 5 CLR, 6 !Q (out), 8 Q (out), 9 RI, 11 CX, 13 RCX
part B pins: 7 GND (power), 14 VCC (power)

## 74*428N
designator IC?, comment SYSTEM CONTROLLER/BUS DRIVER for 8080 (=Intel 8228)
footprint DIL28-6
part A pins: 14 GND (power), 28 VCC (power)
part B pins: 1 STSTB, 2 HLDA, 3 WR, 4 DBIN, 5 DB4, 6 D4, 7 DB7, 8 D7, 9 DB3, 10 D3, 11 DB2, 12 D2, 13 DB0, 15 D0, 16 DB1, 17 D1, 18 DB5, 19 D5, 20 DB6, 21 D6, 22 BUSEN, 23 INTA (out), 24 MEMR (out), 25 I/OR (out), 26 MEMW (out), 27 I/OW (out)

## 74*436J
designator IC?, comment Hex inverting LINE DRIVER
footprint SO16
part A pins: 1 G1, 2 A1, 3 Y1 (out), 4 A2, 5 Y2 (out), 6 A3, 7 Y3 (out), 9 Y4 (out), 10 A4, 11 Y5 (out), 12 A5, 13 Y6 (out), 14 A6, 15 G2
part B pins: 8 GND (power), 16 VCC (power)

## 74*436N
designator IC?, comment Hex inverting LINE DRIVER
footprint DIL16
part A pins: 1 G1, 2 A1, 3 Y1 (out), 4 A2, 5 Y2 (out), 6 A3, 7 Y3 (out), 9 Y4 (out), 10 A4, 11 Y5 (out), 12 A5, 13 Y6 (out), 14 A6, 15 G2
part B pins: 8 GND (power), 16 VCC (power)

## 74*440N
designator IC?, comment Quadruple tridirectional BUS TRANSCEIVER
footprint DIL20
part A pins: 1 CS, 2 B1, 3 C1, 4 C2, 5 B2, 6 B3, 7 C3, 8 C4, 9 B4, 11 S0, 12 S1, 13 A4, 14 A3, 15 A2, 16 A1, 17 GA, 18 GB, 19 GC
part B pins: 10 GND (power), 20 VCC (power)

## 74*441J
designator IC?, comment 4 bit tridirectional BUS DRIVER
footprint SO20W
part A pins: 1 CS, 2 B1, 3 C1, 4 C2, 5 B2, 6 B3, 7 C3, 8 C4, 9 B4, 11 S0, 12 S1, 13 A4, 14 A3, 15 A2, 16 A1, 17 GA, 18 GB, 19 GC
part B pins: 10 GND (power), 20 VCC (power)

## 74*441N
designator IC?, comment 4 bit tridirectional BUS DRIVER
footprint DIL20
part A pins: 1 CS, 2 B1, 3 C1, 4 C2, 5 B2, 6 B3, 7 C3, 8 C4, 9 B4, 11 S0, 12 S1, 13 A4, 14 A3, 15 A2, 16 A1, 17 GA, 18 GB, 19 GC
part B pins: 10 GND (power), 20 VCC (power)

## 74*442J
designator IC?, comment 4 bit tridirectional BUS DRIVER
footprint SO20W
part A pins: 1 CS, 2 B1, 3 C1, 4 C2, 5 B2, 6 B3, 7 C3, 8 C4, 9 B4, 11 S0, 12 S1, 13 A4, 14 A3, 15 A2, 16 A1, 17 GA, 18 GB, 19 GC
part B pins: 10 GND (power), 20 VCC (power)

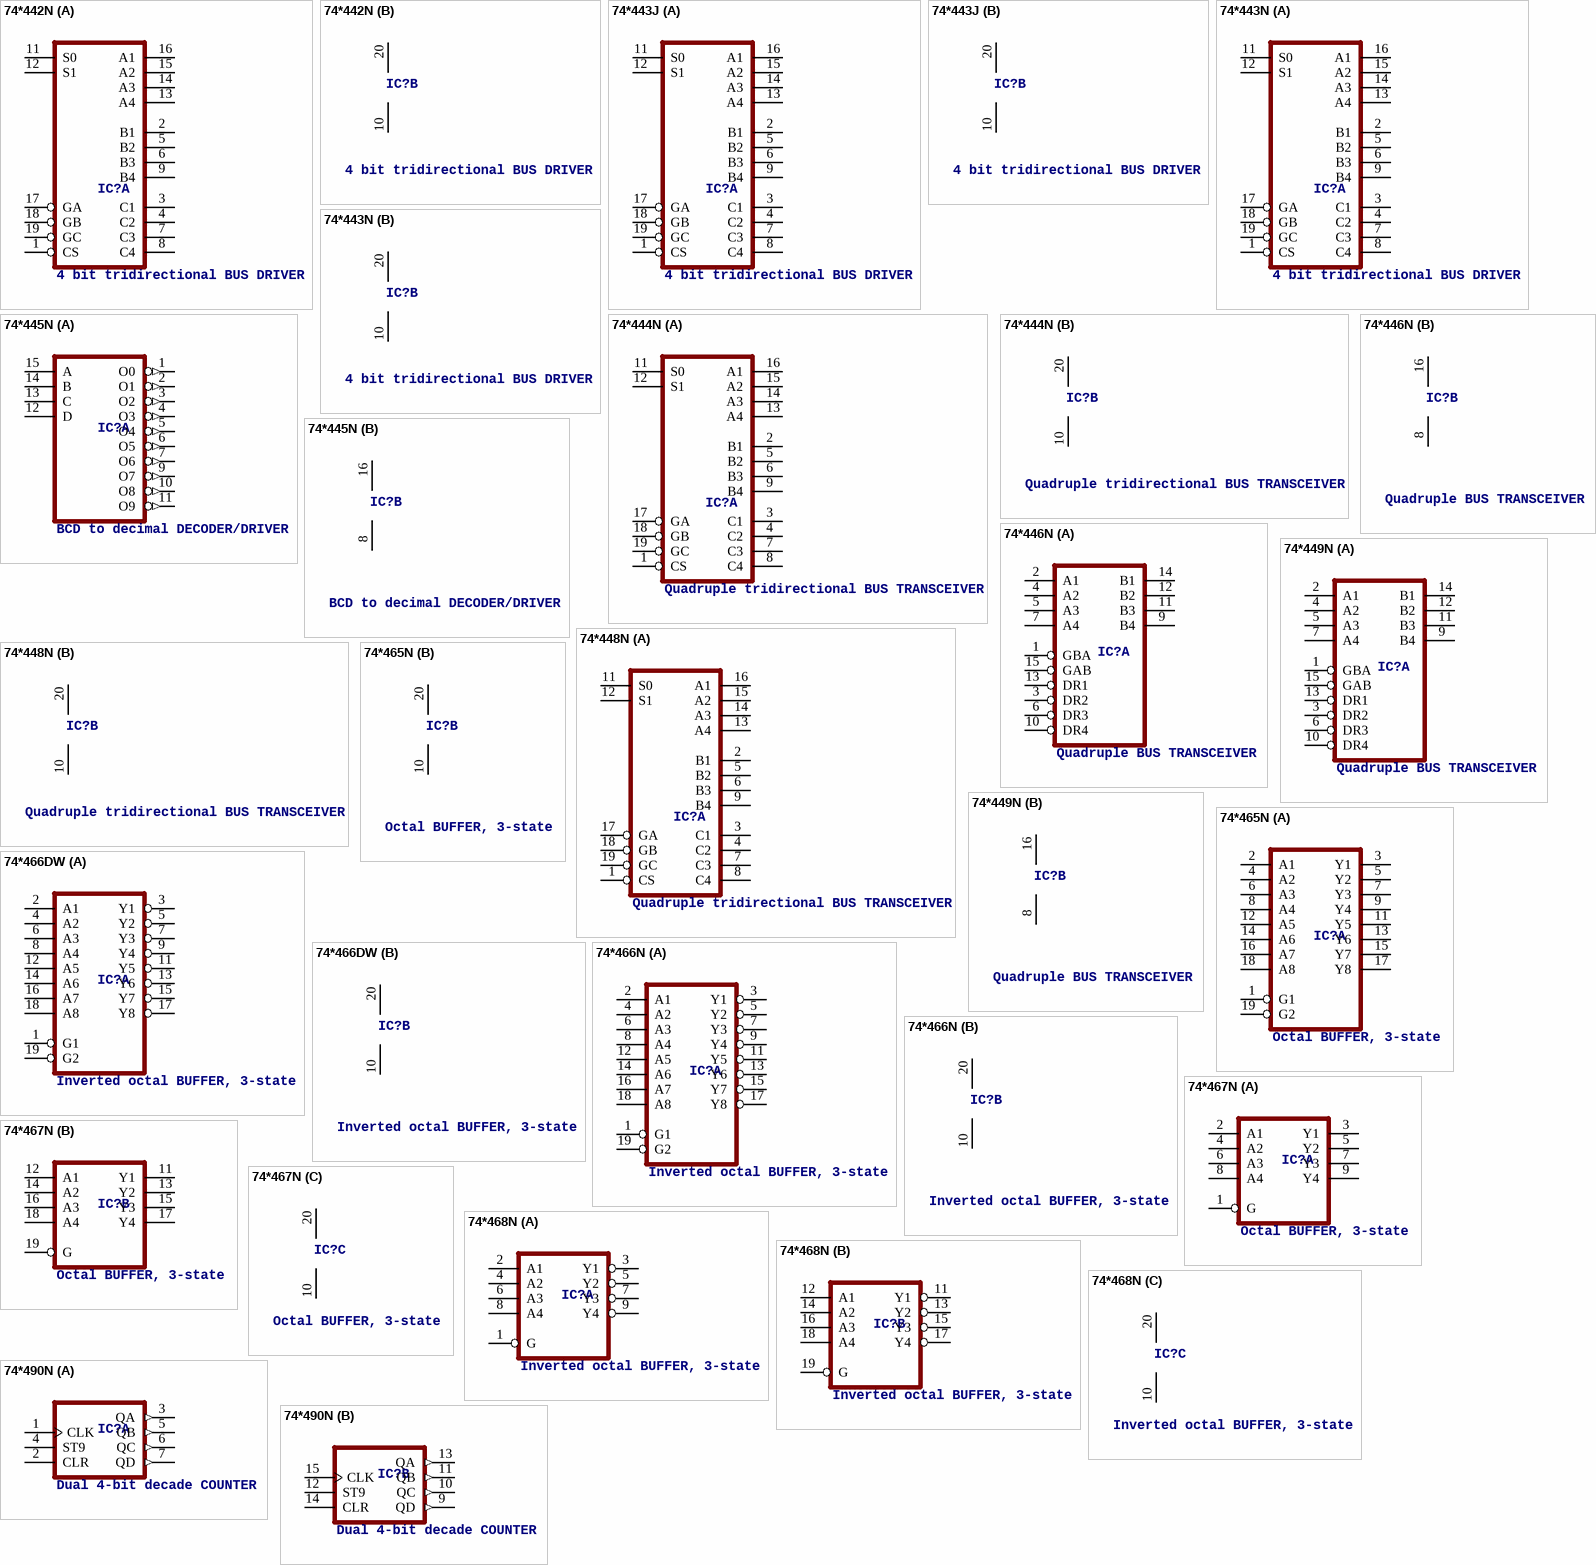
[diagram p41: symbols 74*442N to 74*490N]

## 74*442N
designator IC?, comment 4 bit tridirectional BUS DRIVER
footprint DIL20
part A pins: 1 CS, 2 B1, 3 C1, 4 C2, 5 B2, 6 B3, 7 C3, 8 C4, 9 B4, 11 S0, 12 S1, 13 A4, 14 A3, 15 A2, 16 A1, 17 GA, 18 GB, 19 GC
part B pins: 10 GND (power), 20 VCC (power)

## 74*443J
designator IC?, comment 4 bit tridirectional BUS DRIVER
footprint SO20W
part A pins: 1 CS, 2 B1, 3 C1, 4 C2, 5 B2, 6 B3, 7 C3, 8 C4, 9 B4, 11 S0, 12 S1, 13 A4, 14 A3, 15 A2, 16 A1, 17 GA, 18 GB, 19 GC
part B pins: 10 GND (power), 20 VCC (power)

## 74*443N
designator IC?, comment 4 bit tridirectional BUS DRIVER
footprint DIL20
part A pins: 1 CS, 2 B1, 3 C1, 4 C2, 5 B2, 6 B3, 7 C3, 8 C4, 9 B4, 11 S0, 12 S1, 13 A4, 14 A3, 15 A2, 16 A1, 17 GA, 18 GB, 19 GC
part B pins: 10 GND (power), 20 VCC (power)

## 74*444N
designator IC?, comment Quadruple tridirectional BUS TRANSCEIVER
footprint DIL20
part A pins: 1 CS, 2 B1, 3 C1, 4 C2, 5 B2, 6 B3, 7 C3, 8 C4, 9 B4, 11 S0, 12 S1, 13 A4, 14 A3, 15 A2, 16 A1, 17 GA, 18 GB, 19 GC
part B pins: 10 GND (power), 20 VCC (power)

## 74*445N
designator IC?, comment BCD to decimal DECODER/DRIVER
footprint DIL16
part A pins: 1 O0 (out), 2 O1 (out), 3 O2 (out), 4 O3 (out), 5 O4 (out), 6 O5 (out), 7 O6 (out), 9 O7 (out), 10 O8 (out), 11 O9 (out), 12 D, 13 C, 14 B, 15 A
part B pins: 8 GND (power), 16 VCC (power)

## 74*446N
designator IC?, comment Quadruple BUS TRANSCEIVER
footprint DIL16
part A pins: 1 GBA, 2 A1, 3 DR2, 4 A2, 5 A3, 6 DR3, 7 A4, 9 B4, 10 DR4, 11 B3, 12 B2, 13 DR1, 14 B1, 15 GAB
part B pins: 8 GND (power), 16 VCC (power)

## 74*448N
designator IC?, comment Quadruple tridirectional BUS TRANSCEIVER
footprint DIL20
part A pins: 1 CS, 2 B1, 3 C1, 4 C2, 5 B2, 6 B3, 7 C3, 8 C4, 9 B4, 11 S0, 12 S1, 13 A4, 14 A3, 15 A2, 16 A1, 17 GA, 18 GB, 19 GC
part B pins: 10 GND (power), 20 VCC (power)

## 74*449N
designator IC?, comment Quadruple BUS TRANSCEIVER
footprint DIL16
part A pins: 1 GBA, 2 A1, 3 DR2, 4 A2, 5 A3, 6 DR3, 7 A4, 9 B4, 10 DR4, 11 B3, 12 B2, 13 DR1, 14 B1, 15 GAB
part B pins: 8 GND (power), 16 VCC (power)

## 74*465N
designator IC?, comment Octal BUFFER, 3-state
footprint DIL20
part A pins: 1 G1, 2 A1, 3 Y1 (hiz), 4 A2, 5 Y2 (hiz), 6 A3, 7 Y3 (hiz), 8 A4, 9 Y4 (hiz), 11 Y5 (hiz), 12 A5, 13 Y6 (hiz), 14 A6, 15 Y7 (hiz), 16 A7, 17 Y8 (hiz), 18 A8, 19 G2
part B pins: 10 GND (power), 20 VCC (power)

## 74*466DW
designator IC?, comment Inverted octal BUFFER, 3-state
footprint SO20W
part A pins: 1 G1, 2 A1, 3 Y1 (hiz), 4 A2, 5 Y2 (hiz), 6 A3, 7 Y3 (hiz), 8 A4, 9 Y4 (hiz), 11 Y5 (hiz), 12 A5, 13 Y6 (hiz), 14 A6, 15 Y7 (hiz), 16 A7, 17 Y8 (hiz), 18 A8, 19 G2
part B pins: 10 GND (power), 20 VCC (power)

## 74*466N
designator IC?, comment Inverted octal BUFFER, 3-state
footprint DIL20
part A pins: 1 G1, 2 A1, 3 Y1 (hiz), 4 A2, 5 Y2 (hiz), 6 A3, 7 Y3 (hiz), 8 A4, 9 Y4 (hiz), 11 Y5 (hiz), 12 A5, 13 Y6 (hiz), 14 A6, 15 Y7 (hiz), 16 A7, 17 Y8 (hiz), 18 A8, 19 G2
part B pins: 10 GND (power), 20 VCC (power)

## 74*467N
designator IC?, comment Octal BUFFER, 3-state
footprint DIL20
part A pins: 1 G, 2 A1, 3 Y1 (hiz), 4 A2, 5 Y2 (hiz), 6 A3, 7 Y3 (hiz), 8 A4, 9 Y4 (hiz)
part B pins: 11 Y1 (hiz), 12 A1, 13 Y2 (hiz), 14 A2, 15 Y3 (hiz), 16 A3, 17 Y4 (hiz), 18 A4, 19 G
part C pins: 10 GND (power), 20 VCC (power)

## 74*468N
designator IC?, comment Inverted octal BUFFER, 3-state
footprint DIL20
part A pins: 1 G, 2 A1, 3 Y1 (hiz), 4 A2, 5 Y2 (hiz), 6 A3, 7 Y3 (hiz), 8 A4, 9 Y4 (hiz)
part B pins: 11 Y1 (hiz), 12 A1, 13 Y2 (hiz), 14 A2, 15 Y3 (hiz), 16 A3, 17 Y4 (hiz), 18 A4, 19 G
part C pins: 10 GND (power), 20 VCC (power)

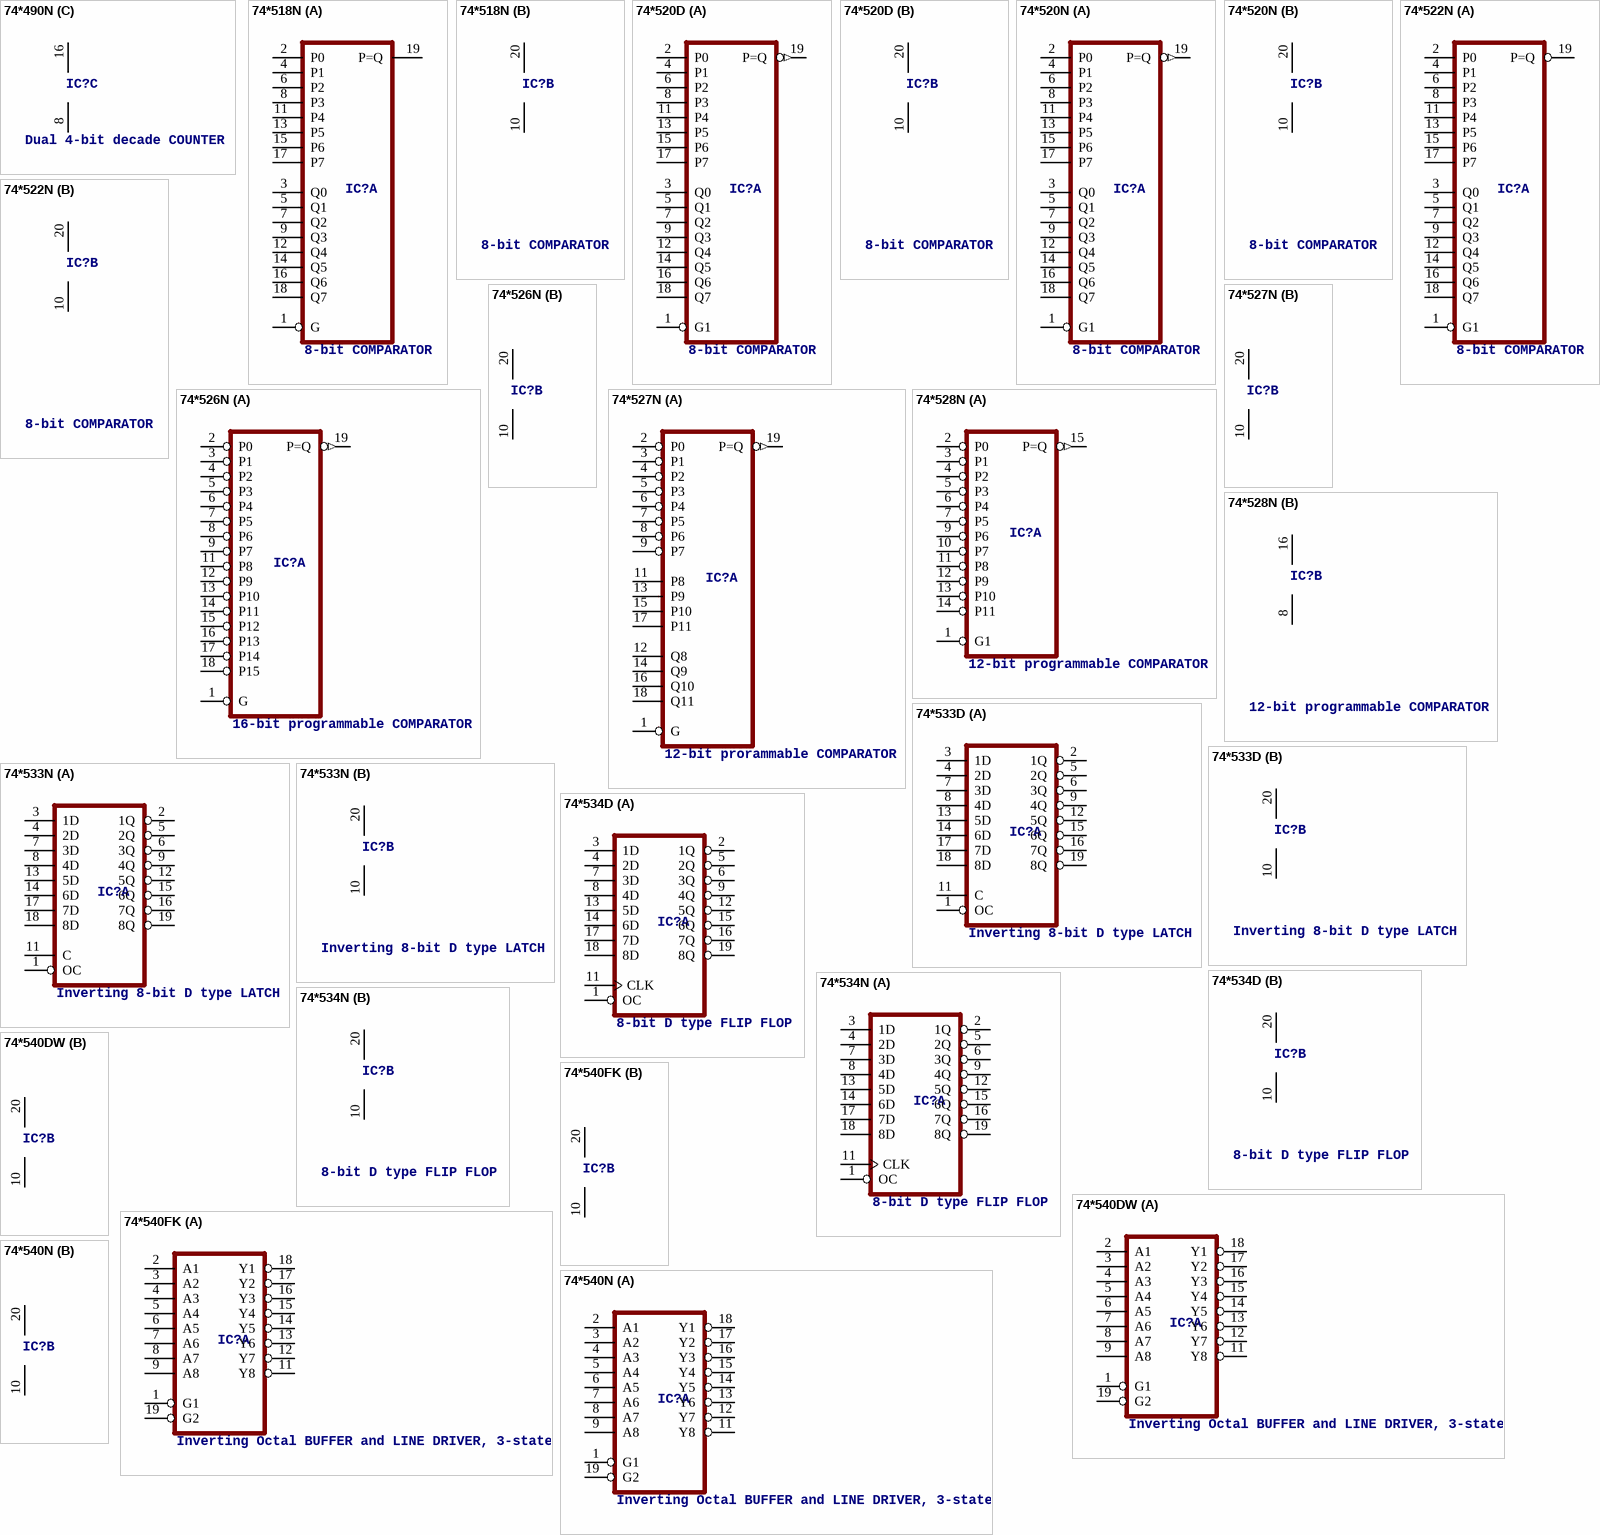
[diagram p42: symbols 74*490N to 74*540N]

## 74*490N
designator IC?, comment Dual 4-bit decade COUNTER
footprint DIL16
part A pins: 1 CLK, 2 CLR, 3 QA (out), 4 ST9, 5 QB (out), 6 QC (out), 7 QD (out)
part B pins: 9 QD (out), 10 QC (out), 11 QB (out), 12 ST9, 13 QA (out), 14 CLR, 15 CLK
part C pins: 8 GND (power), 16 VCC (power)

## 74*518N
designator IC?, comment 8-bit COMPARATOR
footprint DIL20
part A pins: 1 G, 2 P0, 3 Q0, 4 P1, 5 Q1, 6 P2, 7 Q2, 8 P3, 9 Q3, 11 P4, 12 Q4, 13 P5, 14 Q5, 15 P6, 16 Q6, 17 P7, 18 Q7, 19 P=Q (oc)
part B pins: 10 GND (power), 20 VCC (power)

## 74*520D
designator IC?, comment 8-bit COMPARATOR
footprint SO20W
part A pins: 1 G1, 2 P0, 3 Q0, 4 P1, 5 Q1, 6 P2, 7 Q2, 8 P3, 9 Q3, 11 P4, 12 Q4, 13 P5, 14 Q5, 15 P6, 16 Q6, 17 P7, 18 Q7, 19 P=Q (out)
part B pins: 10 GND (power), 20 VCC (power)

## 74*520N
designator IC?, comment 8-bit COMPARATOR
footprint DIL20
part A pins: 1 G1, 2 P0, 3 Q0, 4 P1, 5 Q1, 6 P2, 7 Q2, 8 P3, 9 Q3, 11 P4, 12 Q4, 13 P5, 14 Q5, 15 P6, 16 Q6, 17 P7, 18 Q7, 19 P=Q (out)
part B pins: 10 GND (power), 20 VCC (power)

## 74*522N
designator IC?, comment 8-bit COMPARATOR
footprint DIL20
part A pins: 1 G1, 2 P0, 3 Q0, 4 P1, 5 Q1, 6 P2, 7 Q2, 8 P3, 9 Q3, 11 P4, 12 Q4, 13 P5, 14 Q5, 15 P6, 16 Q6, 17 P7, 18 Q7, 19 P=Q (oc)
part B pins: 10 GND (power), 20 VCC (power)

## 74*526N
designator IC?, comment 16-bit programmable COMPARATOR
footprint DIL20
part A pins: 1 G, 2 P0, 3 P1, 4 P2, 5 P3, 6 P4, 7 P5, 8 P6, 9 P7, 11 P8, 12 P9, 13 P10, 14 P11, 15 P12, 16 P13, 17 P14, 18 P15, 19 P=Q (out)
part B pins: 10 GND (power), 20 VCC (power)

## 74*527N
designator IC?, comment 12-bit prorammable COMPARATOR
footprint DIL20
part A pins: 1 G, 2 P0, 3 P1, 4 P2, 5 P3, 6 P4, 7 P5, 8 P6, 9 P7, 11 P8, 12 Q8, 13 P9, 14 Q9, 15 P10, 16 Q10, 17 P11, 18 Q11, 19 P=Q (out)
part B pins: 10 GND (power), 20 VCC (power)

## 74*528N
designator IC?, comment 12-bit programmable COMPARATOR
footprint DIL16
part A pins: 1 G1, 2 P0, 3 P1, 4 P2, 5 P3, 6 P4, 7 P5, 9 P6, 10 P7, 11 P8, 12 P9, 13 P10, 14 P11, 15 P=Q (out)
part B pins: 8 GND (power), 16 VCC (power)

## 74*533D
designator IC?, comment Inverting 8-bit D type LATCH
footprint SO20W
part A pins: 1 OC, 2 1Q (hiz), 3 1D, 4 2D, 5 2Q (hiz), 6 3Q (hiz), 7 3D, 8 4D, 9 4Q (hiz), 11 C, 12 5Q (hiz), 13 5D, 14 6D, 15 6Q (hiz), 16 7Q (hiz), 17 7D, 18 8D, 19 8Q (hiz)
part B pins: 10 GND (power), 20 VCC (power)

## 74*533N
designator IC?, comment Inverting 8-bit D type LATCH
footprint DIL20
part A pins: 1 OC, 2 1Q (hiz), 3 1D, 4 2D, 5 2Q (hiz), 6 3Q (hiz), 7 3D, 8 4D, 9 4Q (hiz), 11 C, 12 5Q (hiz), 13 5D, 14 6D, 15 6Q (hiz), 16 7Q (hiz), 17 7D, 18 8D, 19 8Q (hiz)
part B pins: 10 GND (power), 20 VCC (power)

## 74*534D
designator IC?, comment 8-bit D type FLIP FLOP
footprint SO20W
part A pins: 1 OC, 2 1Q (hiz), 3 1D, 4 2D, 5 2Q (hiz), 6 3Q (hiz), 7 3D, 8 4D, 9 4Q (hiz), 11 CLK, 12 5Q (hiz), 13 5D, 14 6D, 15 6Q (hiz), 16 7Q (hiz), 17 7D, 18 8D, 19 8Q (hiz)
part B pins: 10 GND (power), 20 VCC (power)

## 74*534N
designator IC?, comment 8-bit D type FLIP FLOP
footprint DIL20
part A pins: 1 OC, 2 1Q (hiz), 3 1D, 4 2D, 5 2Q (hiz), 6 3Q (hiz), 7 3D, 8 4D, 9 4Q (hiz), 11 CLK, 12 5Q (hiz), 13 5D, 14 6D, 15 6Q (hiz), 16 7Q (hiz), 17 7D, 18 8D, 19 8Q (hiz)
part B pins: 10 GND (power), 20 VCC (power)

## 74*540DW
designator IC?, comment Inverting Octal BUFFER and LINE DRIVER, 3-state
footprint SO20W
part A pins: 1 G1, 2 A1, 3 A2, 4 A3, 5 A4, 6 A5, 7 A6, 8 A7, 9 A8, 11 Y8 (hiz), 12 Y7 (hiz), 13 Y6 (hiz), 14 Y5 (hiz), 15 Y4 (hiz), 16 Y3 (hiz), 17 Y2 (hiz), 18 Y1 (hiz), 19 G2
part B pins: 10 GND (power), 20 VCC (power)

## 74*540FK
designator IC?, comment Inverting Octal BUFFER and LINE DRIVER, 3-state
footprint LCC20
part A pins: 1 G1, 2 A1, 3 A2, 4 A3, 5 A4, 6 A5, 7 A6, 8 A7, 9 A8, 11 Y8 (hiz), 12 Y7 (hiz), 13 Y6 (hiz), 14 Y5 (hiz), 15 Y4 (hiz), 16 Y3 (hiz), 17 Y2 (hiz), 18 Y1 (hiz), 19 G2
part B pins: 10 GND (power), 20 VCC (power)

## 74*540N
designator IC?, comment Inverting Octal BUFFER and LINE DRIVER, 3-state
footprint DIL20
part A pins: 1 G1, 2 A1, 3 A2, 4 A3, 5 A4, 6 A5, 7 A6, 8 A7, 9 A8, 11 Y8 (hiz), 12 Y7 (hiz), 13 Y6 (hiz), 14 Y5 (hiz), 15 Y4 (hiz), 16 Y3 (hiz), 17 Y2 (hiz), 18 Y1 (hiz), 19 G2
part B pins: 10 GND (power), 20 VCC (power)

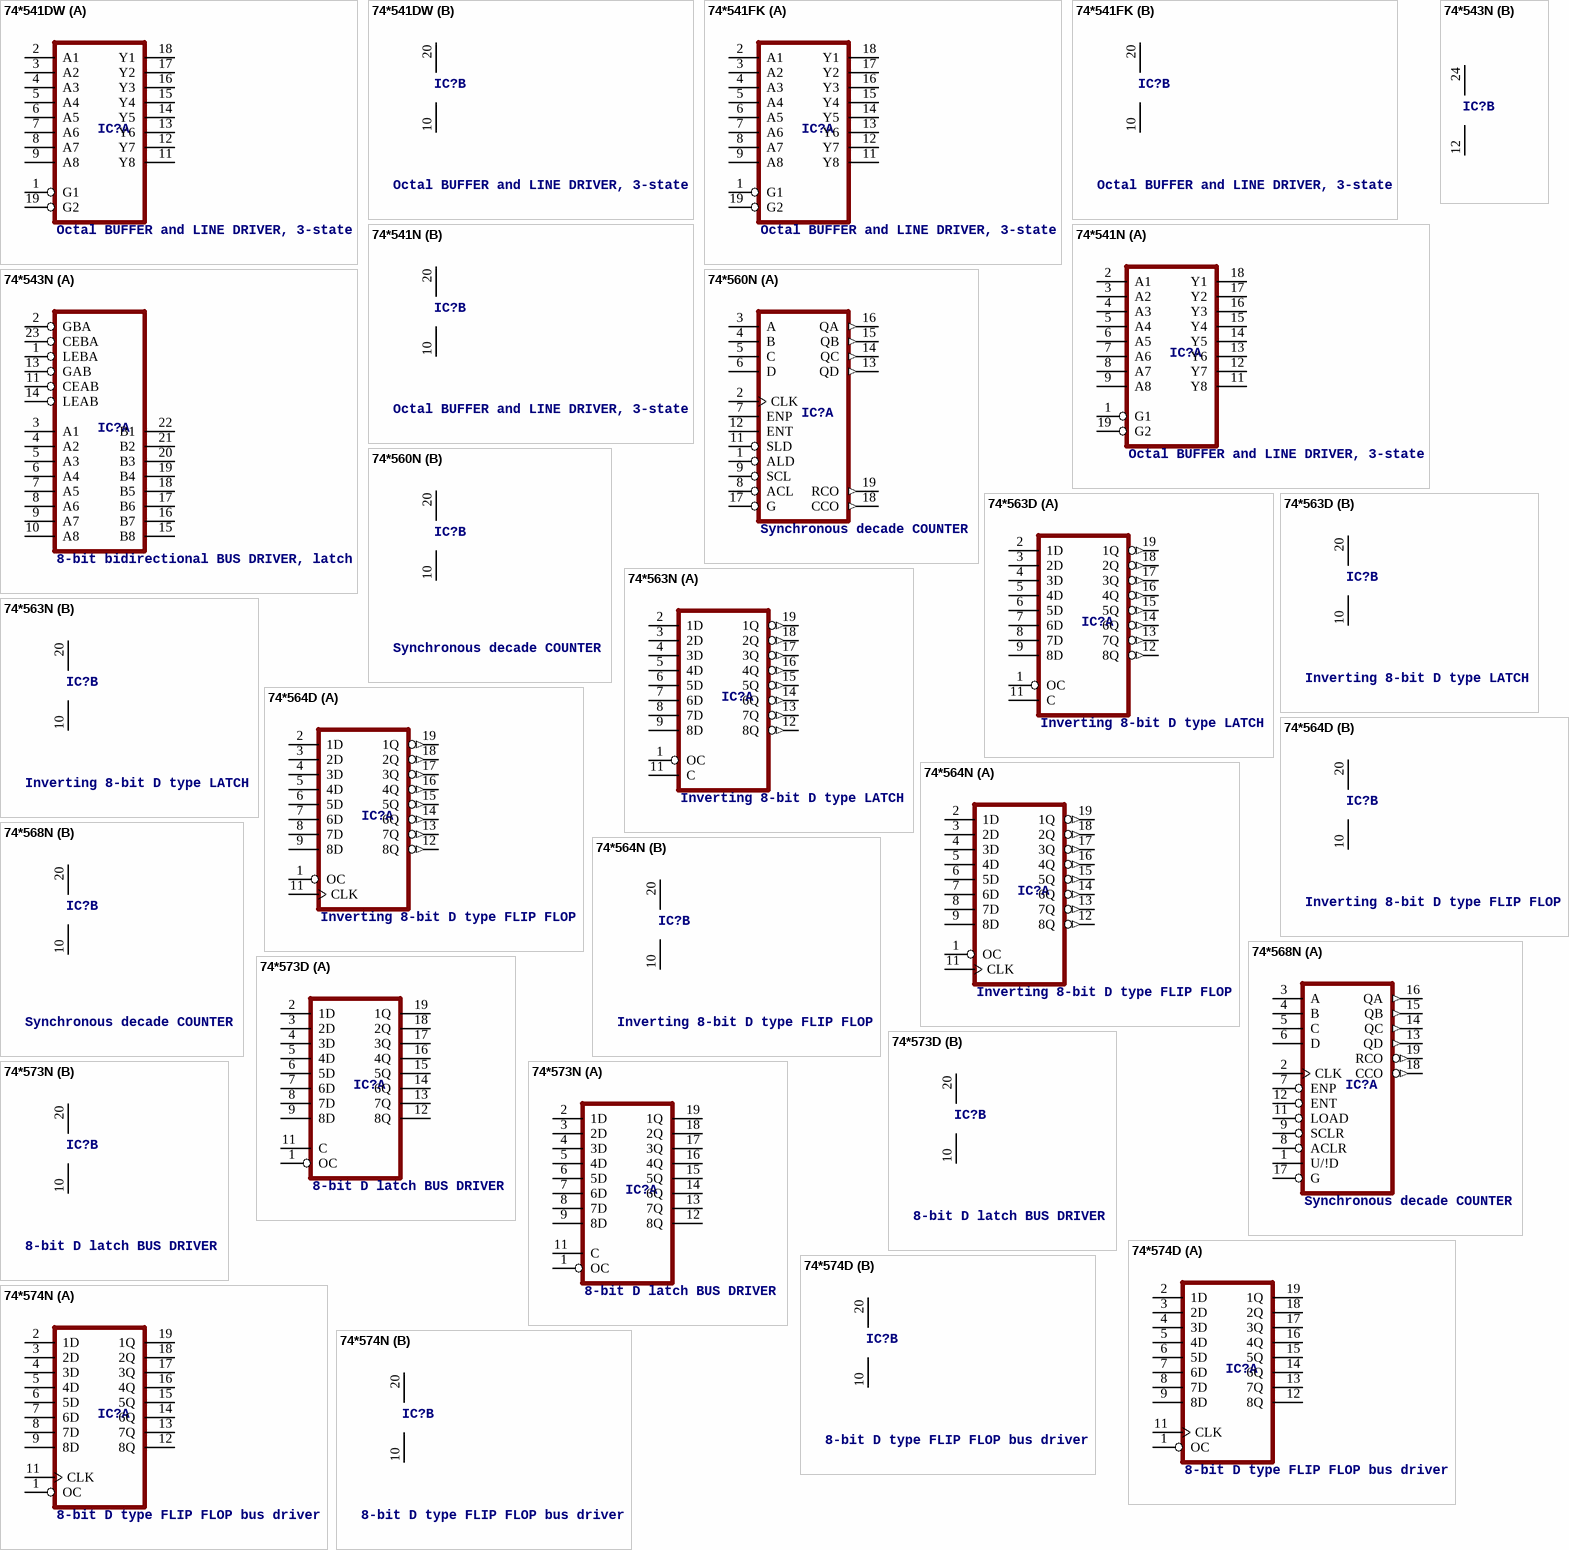
[diagram p43: symbols 74*541DW to 74*574N]

## 74*541DW
designator IC?, comment Octal BUFFER and LINE DRIVER, 3-state
footprint SO20W
part A pins: 1 G1, 2 A1, 3 A2, 4 A3, 5 A4, 6 A5, 7 A6, 8 A7, 9 A8, 11 Y8 (hiz), 12 Y7 (hiz), 13 Y6 (hiz), 14 Y5 (hiz), 15 Y4 (hiz), 16 Y3 (hiz), 17 Y2 (hiz), 18 Y1 (hiz), 19 G2
part B pins: 10 GND (power), 20 VCC (power)

## 74*541FK
designator IC?, comment Octal BUFFER and LINE DRIVER, 3-state
footprint LCC20
part A pins: 1 G1, 2 A1, 3 A2, 4 A3, 5 A4, 6 A5, 7 A6, 8 A7, 9 A8, 11 Y8 (hiz), 12 Y7 (hiz), 13 Y6 (hiz), 14 Y5 (hiz), 15 Y4 (hiz), 16 Y3 (hiz), 17 Y2 (hiz), 18 Y1 (hiz), 19 G2
part B pins: 10 GND (power), 20 VCC (power)

## 74*541N
designator IC?, comment Octal BUFFER and LINE DRIVER, 3-state
footprint DIL20
part A pins: 1 G1, 2 A1, 3 A2, 4 A3, 5 A4, 6 A5, 7 A6, 8 A7, 9 A8, 11 Y8 (hiz), 12 Y7 (hiz), 13 Y6 (hiz), 14 Y5 (hiz), 15 Y4 (hiz), 16 Y3 (hiz), 17 Y2 (hiz), 18 Y1 (hiz), 19 G2
part B pins: 10 GND (power), 20 VCC (power)

## 74*543N
designator IC?, comment 8-bit bidirectional BUS DRIVER, latch
footprint DIL24-6
part A pins: 1 LEBA, 2 GBA, 3 A1, 4 A2, 5 A3, 6 A4, 7 A5, 8 A6, 9 A7, 10 A8, 11 CEAB, 13 GAB, 14 LEAB, 15 B8 (hiz), 16 B7 (hiz), 17 B6 (hiz), 18 B5 (hiz), 19 B4 (hiz), 20 B3 (hiz), 21 B2 (hiz), 22 B1 (hiz), 23 CEBA
part B pins: 12 GND (power), 24 VCC (power)

## 74*560N
designator IC?, comment Synchronous decade COUNTER
footprint DIL20
part A pins: 1 ALD, 2 CLK, 3 A, 4 B, 5 C, 6 D, 7 ENP, 8 ACL, 9 SCL, 11 SLD, 12 ENT, 13 QD (out), 14 QC (out), 15 QB (out), 16 QA (out), 17 G, 18 CCO (out), 19 RCO (out)
part B pins: 10 GND (power), 20 VCC (power)

## 74*563D
designator IC?, comment Inverting 8-bit D type LATCH
footprint SO20W
part A pins: 1 OC, 2 1D, 3 2D, 4 3D, 5 4D, 6 5D, 7 6D, 8 7D, 9 8D, 11 C, 12 8Q (out), 13 7Q (out), 14 6Q (out), 15 5Q (out), 16 4Q (out), 17 3Q (out), 18 2Q (out), 19 1Q (out)
part B pins: 10 GND (power), 20 VCC (power)

## 74*563N
designator IC?, comment Inverting 8-bit D type LATCH
footprint DIL20
part A pins: 1 OC, 2 1D, 3 2D, 4 3D, 5 4D, 6 5D, 7 6D, 8 7D, 9 8D, 11 C, 12 8Q (out), 13 7Q (out), 14 6Q (out), 15 5Q (out), 16 4Q (out), 17 3Q (out), 18 2Q (out), 19 1Q (out)
part B pins: 10 GND (power), 20 VCC (power)

## 74*564D
designator IC?, comment Inverting 8-bit D type FLIP FLOP
footprint SO20W
part A pins: 1 OC, 2 1D, 3 2D, 4 3D, 5 4D, 6 5D, 7 6D, 8 7D, 9 8D, 11 CLK, 12 8Q (out), 13 7Q (out), 14 6Q (out), 15 5Q (out), 16 4Q (out), 17 3Q (out), 18 2Q (out), 19 1Q (out)
part B pins: 10 GND (power), 20 VCC (power)

## 74*564N
designator IC?, comment Inverting 8-bit D type FLIP FLOP
footprint DIL20
part A pins: 1 OC, 2 1D, 3 2D, 4 3D, 5 4D, 6 5D, 7 6D, 8 7D, 9 8D, 11 CLK, 12 8Q (out), 13 7Q (out), 14 6Q (out), 15 5Q (out), 16 4Q (out), 17 3Q (out), 18 2Q (out), 19 1Q (out)
part B pins: 10 GND (power), 20 VCC (power)

## 74*568N
designator IC?, comment Synchronous decade COUNTER
footprint DIL20
part A pins: 1 U/!D, 2 CLK, 3 A, 4 B, 5 C, 6 D, 7 ENP, 8 ACLR, 9 SCLR, 11 LOAD, 12 ENT, 13 QD (out), 14 QC (out), 15 QB (out), 16 QA (out), 17 G, 18 CCO (out), 19 RCO (out)
part B pins: 10 GND (power), 20 VCC (power)

## 74*573D
designator IC?, comment 8-bit D latch BUS DRIVER
footprint SO20W
part A pins: 1 OC, 2 1D, 3 2D, 4 3D, 5 4D, 6 5D, 7 6D, 8 7D, 9 8D, 11 C, 12 8Q (hiz), 13 7Q (hiz), 14 6Q (hiz), 15 5Q (hiz), 16 4Q (hiz), 17 3Q (hiz), 18 2Q (hiz), 19 1Q (hiz)
part B pins: 10 GND (power), 20 VCC (power)

## 74*573N
designator IC?, comment 8-bit D latch BUS DRIVER
footprint DIL20
part A pins: 1 OC, 2 1D, 3 2D, 4 3D, 5 4D, 6 5D, 7 6D, 8 7D, 9 8D, 11 C, 12 8Q (hiz), 13 7Q (hiz), 14 6Q (hiz), 15 5Q (hiz), 16 4Q (hiz), 17 3Q (hiz), 18 2Q (hiz), 19 1Q (hiz)
part B pins: 10 GND (power), 20 VCC (power)

## 74*574D
designator IC?, comment 8-bit D type FLIP FLOP bus driver
footprint SO20W
part A pins: 1 OC, 2 1D, 3 2D, 4 3D, 5 4D, 6 5D, 7 6D, 8 7D, 9 8D, 11 CLK, 12 8Q (hiz), 13 7Q (hiz), 14 6Q (hiz), 15 5Q (hiz), 16 4Q (hiz), 17 3Q (hiz), 18 2Q (hiz), 19 1Q (hiz)
part B pins: 10 GND (power), 20 VCC (power)

## 74*574N
designator IC?, comment 8-bit D type FLIP FLOP bus driver
footprint DIL20
part A pins: 1 OC, 2 1D, 3 2D, 4 3D, 5 4D, 6 5D, 7 6D, 8 7D, 9 8D, 11 CLK, 12 8Q (hiz), 13 7Q (hiz), 14 6Q (hiz), 15 5Q (hiz), 16 4Q (hiz), 17 3Q (hiz), 18 2Q (hiz), 19 1Q (hiz)
part B pins: 10 GND (power), 20 VCC (power)

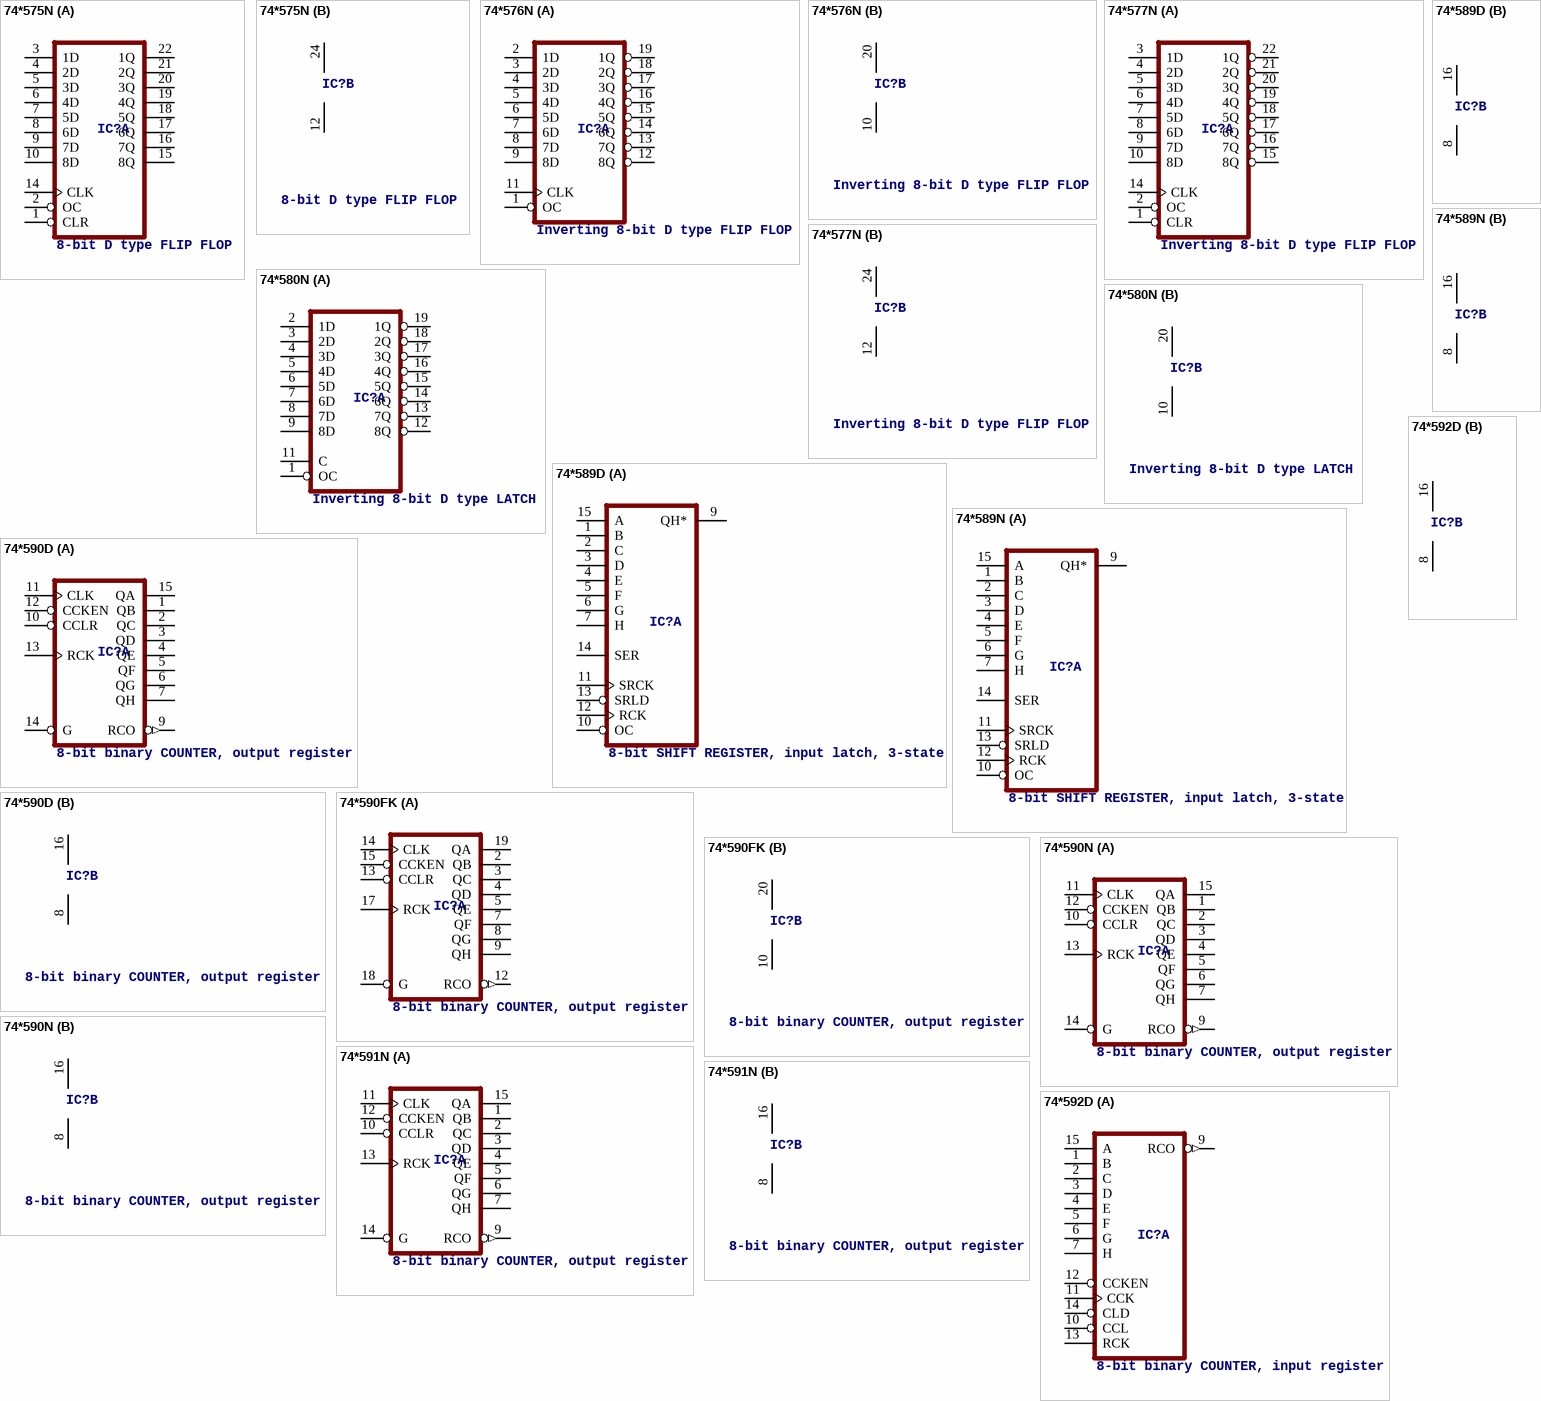
[diagram p44: symbols 74*575N to 74*592D]

## 74*575N
designator IC?, comment 8-bit D type FLIP FLOP
footprint DIL24-6
part A pins: 1 CLR, 2 OC, 3 1D, 4 2D, 5 3D, 6 4D, 7 5D, 8 6D, 9 7D, 10 8D, 14 CLK, 15 8Q (hiz), 16 7Q (hiz), 17 6Q (hiz), 18 5Q (hiz), 19 4Q (hiz), 20 3Q (hiz), 21 2Q (hiz), 22 1Q (hiz)
part B pins: 12 GND (power), 24 VCC (power)

## 74*576N
designator IC?, comment Inverting 8-bit D type FLIP FLOP
footprint DIL20
part A pins: 1 OC, 2 1D, 3 2D, 4 3D, 5 4D, 6 5D, 7 6D, 8 7D, 9 8D, 11 CLK, 12 8Q (hiz), 13 7Q (hiz), 14 6Q (hiz), 15 5Q (hiz), 16 4Q (hiz), 17 3Q (hiz), 18 2Q (hiz), 19 1Q (hiz)
part B pins: 10 GND (power), 20 VCC (power)

## 74*577N
designator IC?, comment Inverting 8-bit D type FLIP FLOP
footprint DIL24-6
part A pins: 1 CLR, 2 OC, 3 1D, 4 2D, 5 3D, 6 4D, 7 5D, 8 6D, 9 7D, 10 8D, 14 CLK, 15 8Q (hiz), 16 7Q (hiz), 17 6Q (hiz), 18 5Q (hiz), 19 4Q (hiz), 20 3Q (hiz), 21 2Q (hiz), 22 1Q (hiz)
part B pins: 12 GND (power), 24 VCC (power)

## 74*580N
designator IC?, comment Inverting 8-bit D type LATCH
footprint DIL20
part A pins: 1 OC, 2 1D, 3 2D, 4 3D, 5 4D, 6 5D, 7 6D, 8 7D, 9 8D, 11 C, 12 8Q (hiz), 13 7Q (hiz), 14 6Q (hiz), 15 5Q (hiz), 16 4Q (hiz), 17 3Q (hiz), 18 2Q (hiz), 19 1Q (hiz)
part B pins: 10 GND (power), 20 VCC (power)

## 74*589D
designator IC?, comment 8-bit SHIFT REGISTER, input latch, 3-state
footprint SO16
part A pins: 1 B, 2 C, 3 D, 4 E, 5 F, 6 G, 7 H, 9 QH* (hiz), 10 OC, 11 SRCK, 12 RCK, 13 SRLD, 14 SER, 15 A
part B pins: 8 GND (power), 16 VCC (power)

## 74*589N
designator IC?, comment 8-bit SHIFT REGISTER, input latch, 3-state
footprint DIL16
part A pins: 1 B, 2 C, 3 D, 4 E, 5 F, 6 G, 7 H, 9 QH* (hiz), 10 OC, 11 SRCK, 12 RCK, 13 SRLD, 14 SER, 15 A
part B pins: 8 GND (power), 16 VCC (power)

## 74*590D
designator IC?, comment 8-bit binary COUNTER, output register
footprint SO16
part A pins: 1 QB (hiz), 2 QC (hiz), 3 QD (hiz), 4 QE (hiz), 5 QF (hiz), 6 QG (hiz), 7 QH (hiz), 9 RCO (out), 10 CCLR, 11 CLK, 12 CCKEN, 13 RCK, 14 G, 15 QA (hiz)
part B pins: 8 GND (power), 16 VCC (power)

## 74*590FK
designator IC?, comment 8-bit binary COUNTER, output register
footprint LCC20
part A pins: 2 QB (hiz), 3 QC (hiz), 4 QD (hiz), 5 QE (hiz), 7 QF (hiz), 8 QG (hiz), 9 QH (hiz), 12 RCO (out), 13 CCLR, 14 CLK, 15 CCKEN, 17 RCK, 18 G, 19 QA (hiz)
part B pins: 10 GND (power), 20 VCC (power)

## 74*590N
designator IC?, comment 8-bit binary COUNTER, output register
footprint DIL16
part A pins: 1 QB (hiz), 2 QC (hiz), 3 QD (hiz), 4 QE (hiz), 5 QF (hiz), 6 QG (hiz), 7 QH (hiz), 9 RCO (out), 10 CCLR, 11 CLK, 12 CCKEN, 13 RCK, 14 G, 15 QA (hiz)
part B pins: 8 GND (power), 16 VCC (power)

## 74*591N
designator IC?, comment 8-bit binary COUNTER, output register
footprint DIL16
part A pins: 1 QB (oc), 2 QC (oc), 3 QD (oc), 4 QE (oc), 5 QF (oc), 6 QG (oc), 7 QH (oc), 9 RCO (out), 10 CCLR, 11 CLK, 12 CCKEN, 13 RCK, 14 G, 15 QA (oc)
part B pins: 8 GND (power), 16 VCC (power)

## 74*592D
designator IC?, comment 8-bit binary COUNTER, input register
footprint SO16
part A pins: 1 B, 2 C, 3 D, 4 E, 5 F, 6 G, 7 H, 9 RCO (out), 10 CCL, 11 CCK, 12 CCKEN, 13 RCK, 14 CLD, 15 A
part B pins: 8 GND (power), 16 VCC (power)

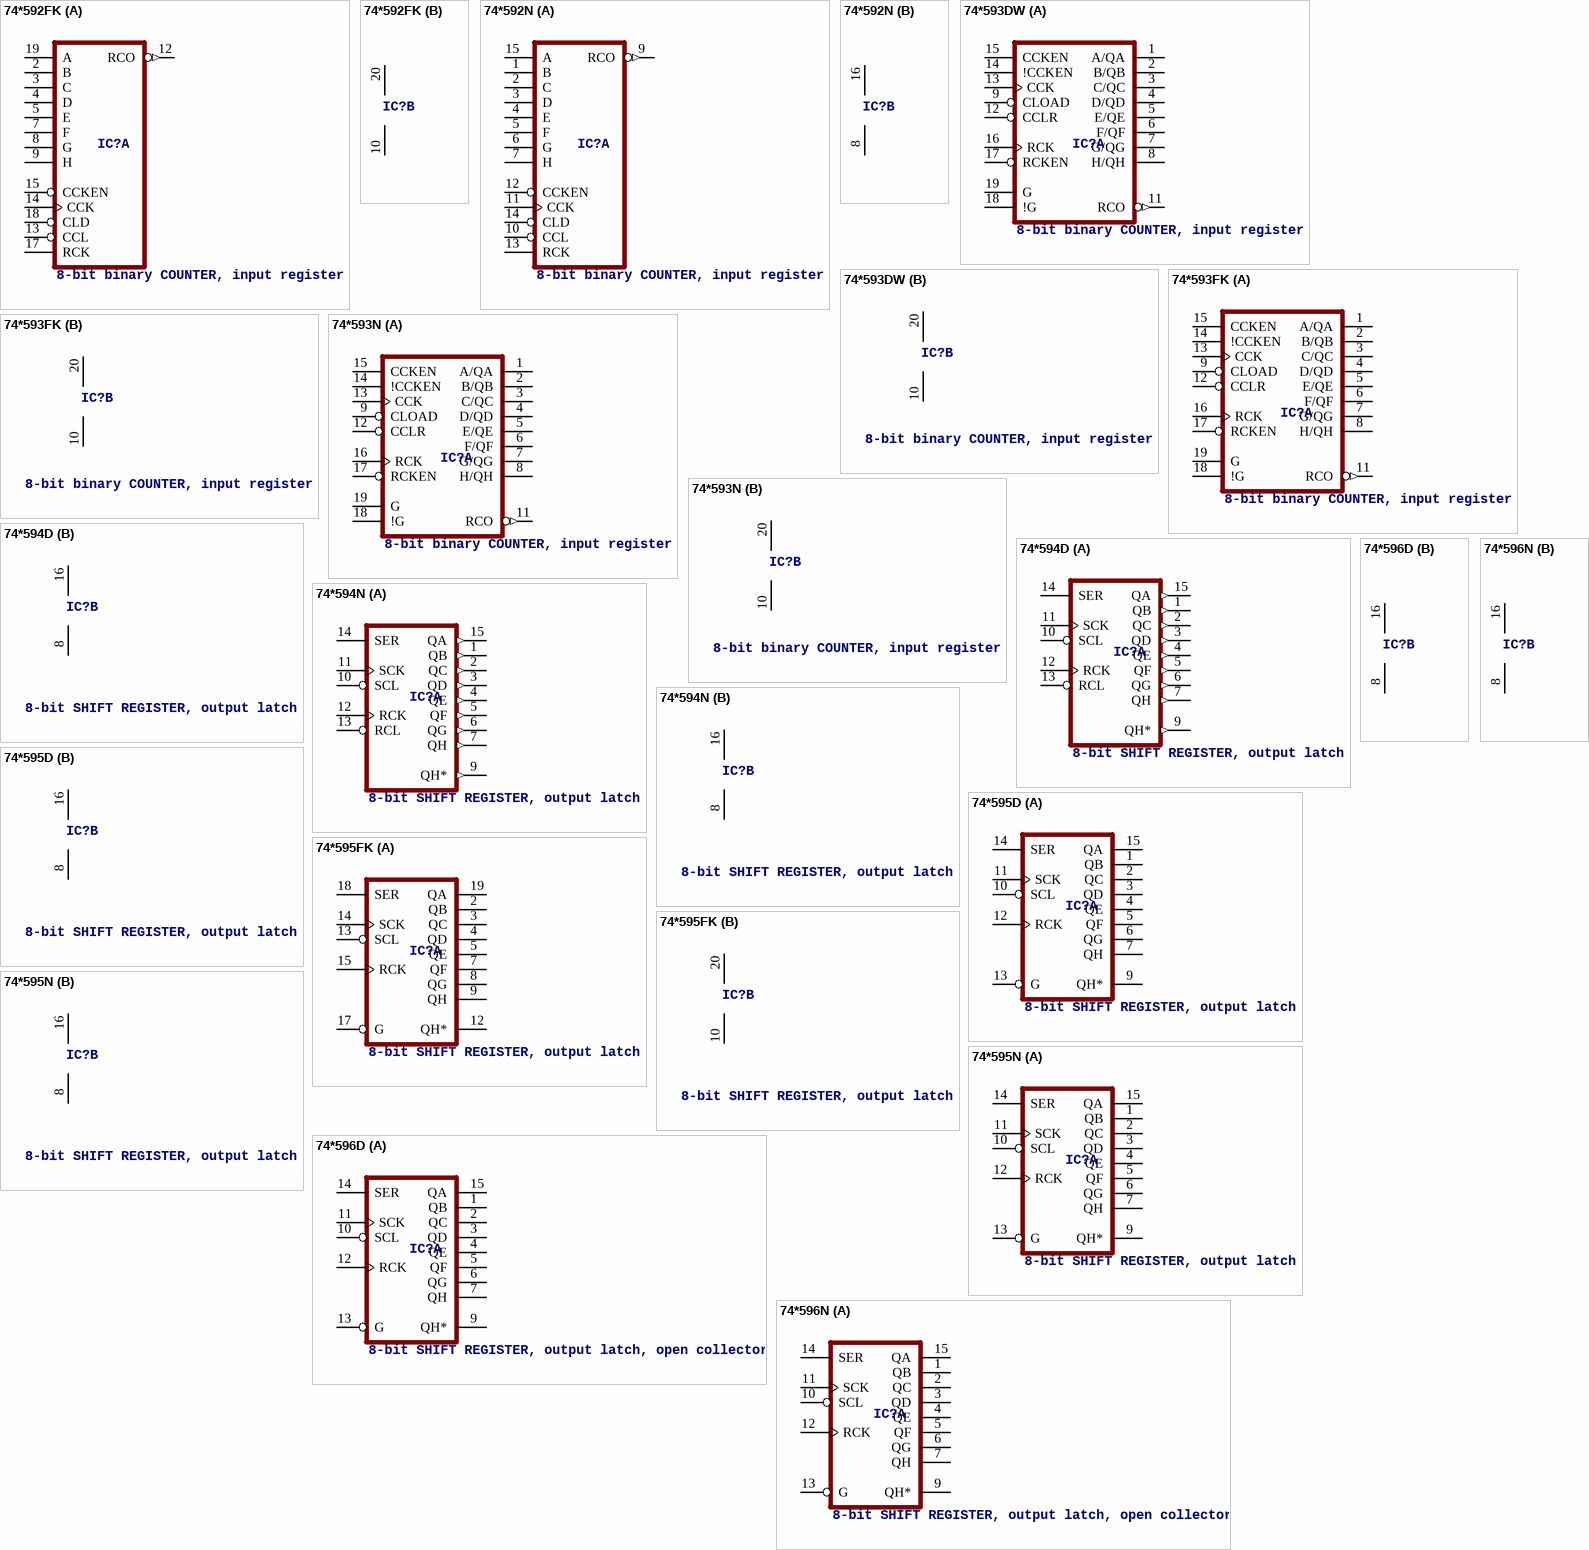
[diagram p45: symbols 74*592FK to 74*596N]

## 74*592FK
designator IC?, comment 8-bit binary COUNTER, input register
footprint LCC20
part A pins: 2 B, 3 C, 4 D, 5 E, 7 F, 8 G, 9 H, 12 RCO (out), 13 CCL, 14 CCK, 15 CCKEN, 17 RCK, 18 CLD, 19 A
part B pins: 10 GND (power), 20 VCC (power)

## 74*592N
designator IC?, comment 8-bit binary COUNTER, input register
footprint DIL16
part A pins: 1 B, 2 C, 3 D, 4 E, 5 F, 6 G, 7 H, 9 RCO (out), 10 CCL, 11 CCK, 12 CCKEN, 13 RCK, 14 CLD, 15 A
part B pins: 8 GND (power), 16 VCC (power)

## 74*593DW
designator IC?, comment 8-bit binary COUNTER, input register
footprint SO20W
part A pins: 1 A/QA, 2 B/QB, 3 C/QC, 4 D/QD, 5 E/QE, 6 F/QF, 7 G/QG, 8 H/QH, 9 CLOAD, 11 RCO (out), 12 CCLR, 13 CCK, 14 !CCKEN, 15 CCKEN, 16 RCK, 17 RCKEN, 18 !G, 19 G
part B pins: 10 GND (power), 20 VCC (power)

## 74*593FK
designator IC?, comment 8-bit binary COUNTER, input register
footprint LCC20
part A pins: 1 A/QA, 2 B/QB, 3 C/QC, 4 D/QD, 5 E/QE, 6 F/QF, 7 G/QG, 8 H/QH, 9 CLOAD, 11 RCO (out), 12 CCLR, 13 CCK, 14 !CCKEN, 15 CCKEN, 16 RCK, 17 RCKEN, 18 !G, 19 G
part B pins: 10 GND (power), 20 VCC (power)

## 74*593N
designator IC?, comment 8-bit binary COUNTER, input register
footprint DIL20
part A pins: 1 A/QA, 2 B/QB, 3 C/QC, 4 D/QD, 5 E/QE, 6 F/QF, 7 G/QG, 8 H/QH, 9 CLOAD, 11 RCO (out), 12 CCLR, 13 CCK, 14 !CCKEN, 15 CCKEN, 16 RCK, 17 RCKEN, 18 !G, 19 G
part B pins: 10 GND (power), 20 VCC (power)

## 74*594D
designator IC?, comment 8-bit SHIFT REGISTER, output latch
footprint SO16
part A pins: 1 QB (out), 2 QC (out), 3 QD (out), 4 QE (out), 5 QF (out), 6 QG (out), 7 QH (out), 9 QH* (out), 10 SCL, 11 SCK, 12 RCK, 13 RCL, 14 SER, 15 QA (out)
part B pins: 8 GND (power), 16 VCC (power)

## 74*594N
designator IC?, comment 8-bit SHIFT REGISTER, output latch
footprint DIL16
part A pins: 1 QB (out), 2 QC (out), 3 QD (out), 4 QE (out), 5 QF (out), 6 QG (out), 7 QH (out), 9 QH* (out), 10 SCL, 11 SCK, 12 RCK, 13 RCL, 14 SER, 15 QA (out)
part B pins: 8 GND (power), 16 VCC (power)

## 74*595D
designator IC?, comment 8-bit SHIFT REGISTER, output latch
footprint SO16
part A pins: 1 QB (hiz), 2 QC (hiz), 3 QD (hiz), 4 QE (hiz), 5 QF (hiz), 6 QG (hiz), 7 QH (hiz), 9 QH* (hiz), 10 SCL, 11 SCK, 12 RCK, 13 G, 14 SER, 15 QA (hiz)
part B pins: 8 GND (power), 16 VCC (power)

## 74*595FK
designator IC?, comment 8-bit SHIFT REGISTER, output latch
footprint LCC20
part A pins: 2 QB (hiz), 3 QC (hiz), 4 QD (hiz), 5 QE (hiz), 7 QF (hiz), 8 QG (hiz), 9 QH (hiz), 12 QH* (hiz), 13 SCL, 14 SCK, 15 RCK, 17 G, 18 SER, 19 QA (hiz)
part B pins: 10 GND (power), 20 VCC (power)

## 74*595N
designator IC?, comment 8-bit SHIFT REGISTER, output latch
footprint DIL16
part A pins: 1 QB (hiz), 2 QC (hiz), 3 QD (hiz), 4 QE (hiz), 5 QF (hiz), 6 QG (hiz), 7 QH (hiz), 9 QH* (hiz), 10 SCL, 11 SCK, 12 RCK, 13 G, 14 SER, 15 QA (hiz)
part B pins: 8 GND (power), 16 VCC (power)

## 74*596D
designator IC?, comment 8-bit SHIFT REGISTER, output latch, open collector
footprint SO16
part A pins: 1 QB (oc), 2 QC (oc), 3 QD (oc), 4 QE (oc), 5 QF (oc), 6 QG (oc), 7 QH (oc), 9 QH* (oc), 10 SCL, 11 SCK, 12 RCK, 13 G, 14 SER, 15 QA (oc)
part B pins: 8 GND (power), 16 VCC (power)

## 74*596N
designator IC?, comment 8-bit SHIFT REGISTER, output latch, open collector
footprint DIL16
part A pins: 1 QB (oc), 2 QC (oc), 3 QD (oc), 4 QE (oc), 5 QF (oc), 6 QG (oc), 7 QH (oc), 9 QH* (oc), 10 SCL, 11 SCK, 12 RCK, 13 G, 14 SER, 15 QA (oc)
part B pins: 8 GND (power), 16 VCC (power)

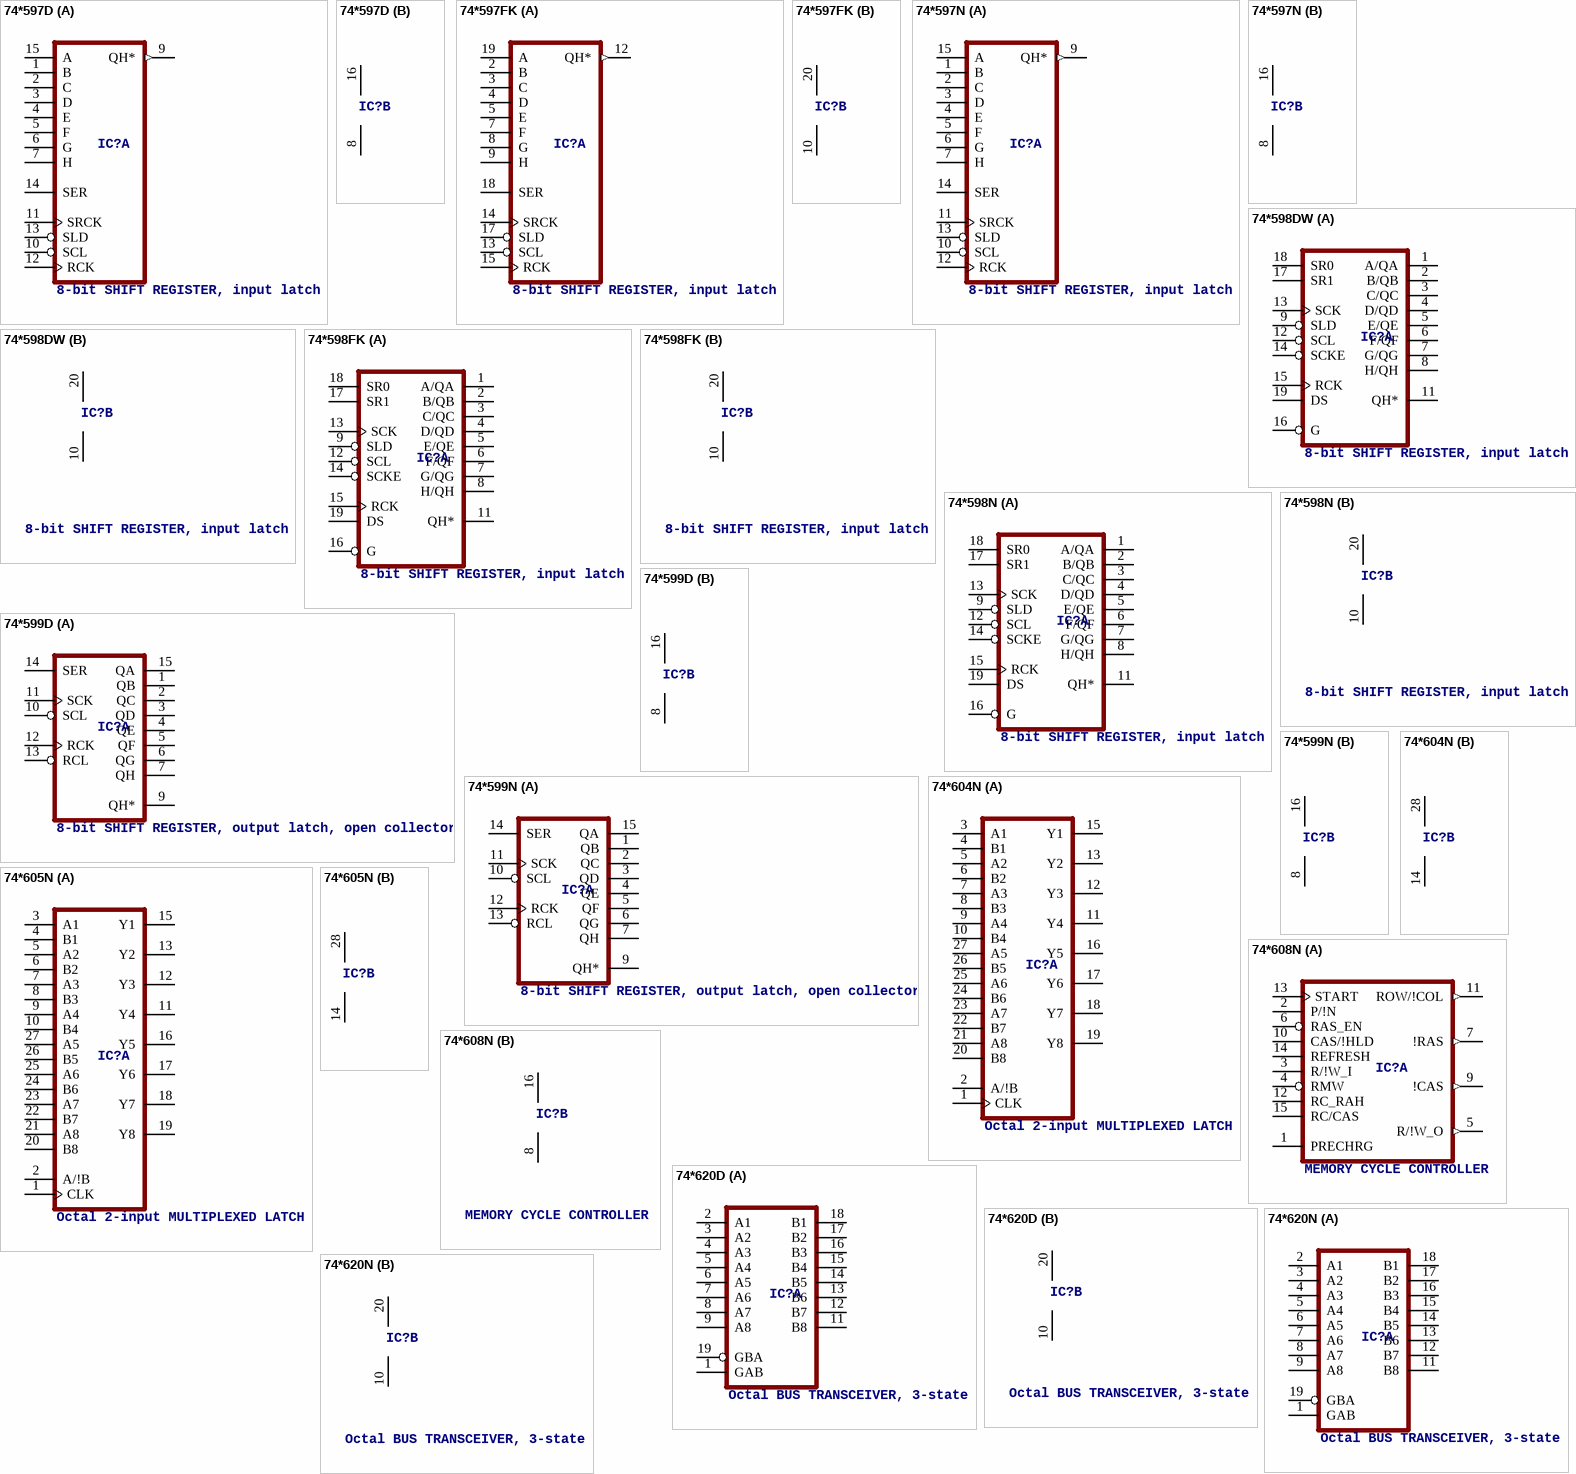
[diagram p46: symbols 74*597D to 74*620N]

## 74*597D
designator IC?, comment 8-bit SHIFT REGISTER, input latch
footprint SO16
part A pins: 1 B, 2 C, 3 D, 4 E, 5 F, 6 G, 7 H, 9 QH* (out), 10 SCL, 11 SRCK, 12 RCK, 13 SLD, 14 SER, 15 A
part B pins: 8 GND (power), 16 VCC (power)

## 74*597FK
designator IC?, comment 8-bit SHIFT REGISTER, input latch
footprint LCC20
part A pins: 2 B, 3 C, 4 D, 5 E, 7 F, 8 G, 9 H, 12 QH* (out), 13 SCL, 14 SRCK, 15 RCK, 17 SLD, 18 SER, 19 A
part B pins: 10 GND (power), 20 VCC (power)

## 74*597N
designator IC?, comment 8-bit SHIFT REGISTER, input latch
footprint DIL16
part A pins: 1 B, 2 C, 3 D, 4 E, 5 F, 6 G, 7 H, 9 QH* (out), 10 SCL, 11 SRCK, 12 RCK, 13 SLD, 14 SER, 15 A
part B pins: 8 GND (power), 16 VCC (power)

## 74*598DW
designator IC?, comment 8-bit SHIFT REGISTER, input latch
footprint SO20W
part A pins: 1 A/QA, 2 B/QB, 3 C/QC, 4 D/QD, 5 E/QE, 6 F/QF, 7 G/QG, 8 H/QH, 9 SLD, 11 QH*, 12 SCL, 13 SCK, 14 SCKE, 15 RCK, 16 G, 17 SR1, 18 SR0, 19 DS
part B pins: 10 GND (power), 20 VCC (power)

## 74*598FK
designator IC?, comment 8-bit SHIFT REGISTER, input latch
footprint LCC20
part A pins: 1 A/QA, 2 B/QB, 3 C/QC, 4 D/QD, 5 E/QE, 6 F/QF, 7 G/QG, 8 H/QH, 9 SLD, 11 QH*, 12 SCL, 13 SCK, 14 SCKE, 15 RCK, 16 G, 17 SR1, 18 SR0, 19 DS
part B pins: 10 GND (power), 20 VCC (power)

## 74*598N
designator IC?, comment 8-bit SHIFT REGISTER, input latch
footprint DIL20
part A pins: 1 A/QA, 2 B/QB, 3 C/QC, 4 D/QD, 5 E/QE, 6 F/QF, 7 G/QG, 8 H/QH, 9 SLD, 11 QH*, 12 SCL, 13 SCK, 14 SCKE, 15 RCK, 16 G, 17 SR1, 18 SR0, 19 DS
part B pins: 10 GND (power), 20 VCC (power)

## 74*599D
designator IC?, comment 8-bit SHIFT REGISTER, output latch, open collector
footprint SO16
part A pins: 1 QB (oc), 2 QC (oc), 3 QD (oc), 4 QE (oc), 5 QF (oc), 6 QG (oc), 7 QH (oc), 9 QH* (oc), 10 SCL, 11 SCK, 12 RCK, 13 RCL, 14 SER, 15 QA (oc)
part B pins: 8 GND (power), 16 VCC (power)

## 74*599N
designator IC?, comment 8-bit SHIFT REGISTER, output latch, open collector
footprint DIL16
part A pins: 1 QB (oc), 2 QC (oc), 3 QD (oc), 4 QE (oc), 5 QF (oc), 6 QG (oc), 7 QH (oc), 9 QH* (oc), 10 SCL, 11 SCK, 12 RCK, 13 RCL, 14 SER, 15 QA (oc)
part B pins: 8 GND (power), 16 VCC (power)

## 74*604N
designator IC?, comment Octal 2-input MULTIPLEXED LATCH
footprint DIL28-6
part A pins: 1 CLK, 2 A/!B, 3 A1, 4 B1, 5 A2, 6 B2, 7 A3, 8 B3, 9 A4, 10 B4, 11 Y4 (hiz), 12 Y3 (hiz), 13 Y2 (hiz), 15 Y1 (hiz), 16 Y5 (hiz), 17 Y6 (hiz), 18 Y7 (hiz), 19 Y8 (hiz), 20 B8, 21 A8, 22 B7, 23 A7, 24 B6, 25 A6, 26 B5, 27 A5
part B pins: 14 GND (power), 28 VCC (power)

## 74*605N
designator IC?, comment Octal 2-input MULTIPLEXED LATCH
footprint DIL28-6
part A pins: 1 CLK, 2 A/!B, 3 A1, 4 B1, 5 A2, 6 B2, 7 A3, 8 B3, 9 A4, 10 B4, 11 Y4 (oc), 12 Y3 (oc), 13 Y2 (oc), 15 Y1 (oc), 16 Y5 (oc), 17 Y6 (oc), 18 Y7 (oc), 19 Y8 (oc), 20 B8, 21 A8, 22 B7, 23 A7, 24 B6, 25 A6, 26 B5, 27 A5
part B pins: 14 GND (power), 28 VCC (power)

## 74*608N
designator IC?, comment MEMORY CYCLE CONTROLLER
footprint DIL16
part A pins: 1 PRECHRG, 2 P/!N, 3 R/!W_I, 4 RMW, 5 R/!W_O (out), 6 RAS_EN, 7 !RAS (out), 9 !CAS (out), 10 CAS/!HLD, 11 ROW/!COL (out), 12 RC_RAH, 13 START, 14 REFRESH, 15 RC/CAS
part B pins: 8 GND (power), 16 VCC (power)

## 74*620D
designator IC?, comment Octal BUS TRANSCEIVER, 3-state
footprint SO20W
part A pins: 1 GAB, 2 A1, 3 A2, 4 A3, 5 A4, 6 A5, 7 A6, 8 A7, 9 A8, 11 B8, 12 B7, 13 B6, 14 B5, 15 B4, 16 B3, 17 B2, 18 B1, 19 GBA
part B pins: 10 GND (power), 20 VCC (power)

## 74*620N
designator IC?, comment Octal BUS TRANSCEIVER, 3-state
footprint DIL20
part A pins: 1 GAB, 2 A1, 3 A2, 4 A3, 5 A4, 6 A5, 7 A6, 8 A7, 9 A8, 11 B8, 12 B7, 13 B6, 14 B5, 15 B4, 16 B3, 17 B2, 18 B1, 19 GBA
part B pins: 10 GND (power), 20 VCC (power)

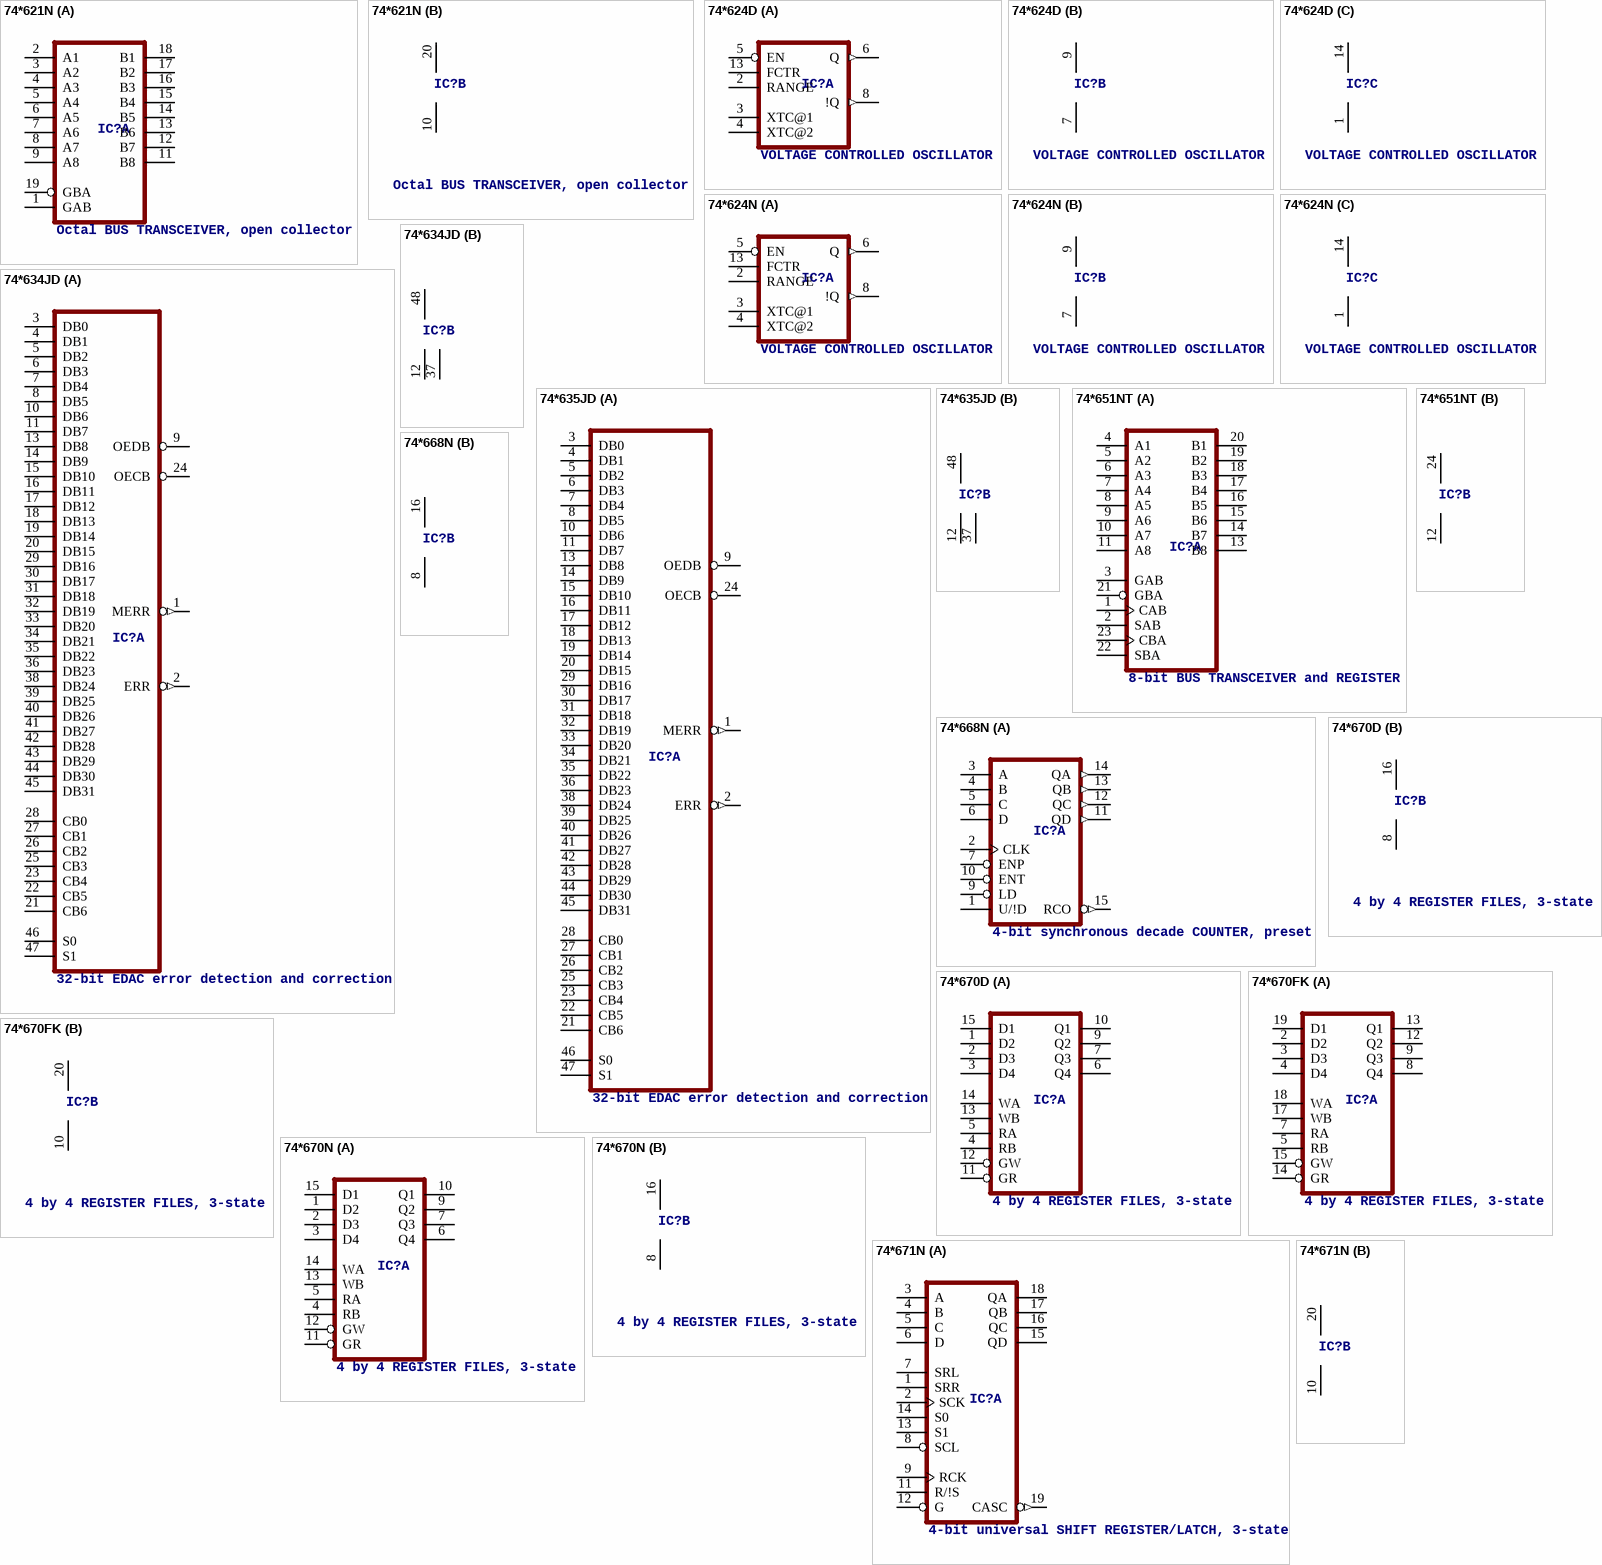
[diagram p47: symbols 74*621N to 74*671N]

## 74*621N
designator IC?, comment Octal BUS TRANSCEIVER, open collector
footprint DIL20
part A pins: 1 GAB, 2 A1 (oc), 3 A2 (oc), 4 A3 (oc), 5 A4 (oc), 6 A5 (oc), 7 A6 (oc), 8 A7 (oc), 9 A8 (oc), 11 B8 (oc), 12 B7 (oc), 13 B6 (oc), 14 B5 (oc), 15 B4 (oc), 16 B3 (oc), 17 B2 (oc), 18 B1 (oc), 19 GBA
part B pins: 10 GND (power), 20 VCC (power)

## 74*624D
designator IC?, comment VOLTAGE CONTROLLED OSCILLATOR
footprint SO14
part A pins: 2 RANGE, 3 XTC@1, 4 XTC@2, 5 EN, 6 Q (out), 8 !Q (out), 13 FCTR
part B pins: 7 GND (power), 9 VCC (power)
part C pins: 1 GND (power), 14 VCC (power)

## 74*624N
designator IC?, comment VOLTAGE CONTROLLED OSCILLATOR
footprint DIL14
part A pins: 2 RANGE, 3 XTC@1, 4 XTC@2, 5 EN, 6 Q (out), 8 !Q (out), 13 FCTR
part B pins: 7 GND (power), 9 VCC (power)
part C pins: 1 GND (power), 14 VCC (power)

## 74*634JD
designator IC?, comment 32-bit EDAC error detection and correction
footprint DIL48
part A pins: 1 MERR (out), 2 ERR (out), 3 DB0, 4 DB1, 5 DB2, 6 DB3, 7 DB4, 8 DB5, 9 OEDB (hiz), 10 DB6, 11 DB7, 13 DB8, 14 DB9, 15 DB10, 16 DB11, 17 DB12, 18 DB13, 19 DB14, 20 DB15, 21 CB6, 22 CB5, 23 CB4, 24 OECB (hiz), 25 CB3, 26 CB2, 27 CB1, 28 CB0, 29 DB16, 30 DB17, 31 DB18, 32 DB19, 33 DB20, 34 DB21, 35 DB22, 36 DB23, 38 DB24, 39 DB25, 40 DB26, 41 DB27, 42 DB28, 43 DB29, 44 DB30, 45 DB31, 46 S0, 47 S1
part B pins: 12 GND@1 (power), 37 GND@2 (power), 48 VCC (power)

## 74*635JD
designator IC?, comment 32-bit EDAC error detection and correction
footprint DIL48
part A pins: 1 MERR (out), 2 ERR (out), 3 DB0, 4 DB1, 5 DB2, 6 DB3, 7 DB4, 8 DB5, 9 OEDB (oc), 10 DB6, 11 DB7, 13 DB8, 14 DB9, 15 DB10, 16 DB11, 17 DB12, 18 DB13, 19 DB14, 20 DB15, 21 CB6, 22 CB5, 23 CB4, 24 OECB (oc), 25 CB3, 26 CB2, 27 CB1, 28 CB0, 29 DB16, 30 DB17, 31 DB18, 32 DB19, 33 DB20, 34 DB21, 35 DB22, 36 DB23, 38 DB24, 39 DB25, 40 DB26, 41 DB27, 42 DB28, 43 DB29, 44 DB30, 45 DB31, 46 S0, 47 S1
part B pins: 12 GND@1 (power), 37 GND@2 (power), 48 VCC (power)

## 74*651NT
designator IC?, comment 8-bit BUS TRANSCEIVER and REGISTER
footprint DIL24-6
part A pins: 1 CAB, 2 SAB, 3 GAB, 4 A1, 5 A2, 6 A3, 7 A4, 8 A5, 9 A6, 10 A7, 11 A8, 13 B8, 14 B7, 15 B6, 16 B5, 17 B4, 18 B3, 19 B2, 20 B1, 21 GBA, 22 SBA, 23 CBA
part B pins: 12 GND (power), 24 VCC (power)